# Altium integrated library con-molex.IntLib: 368 symbols (part 5 of 6)

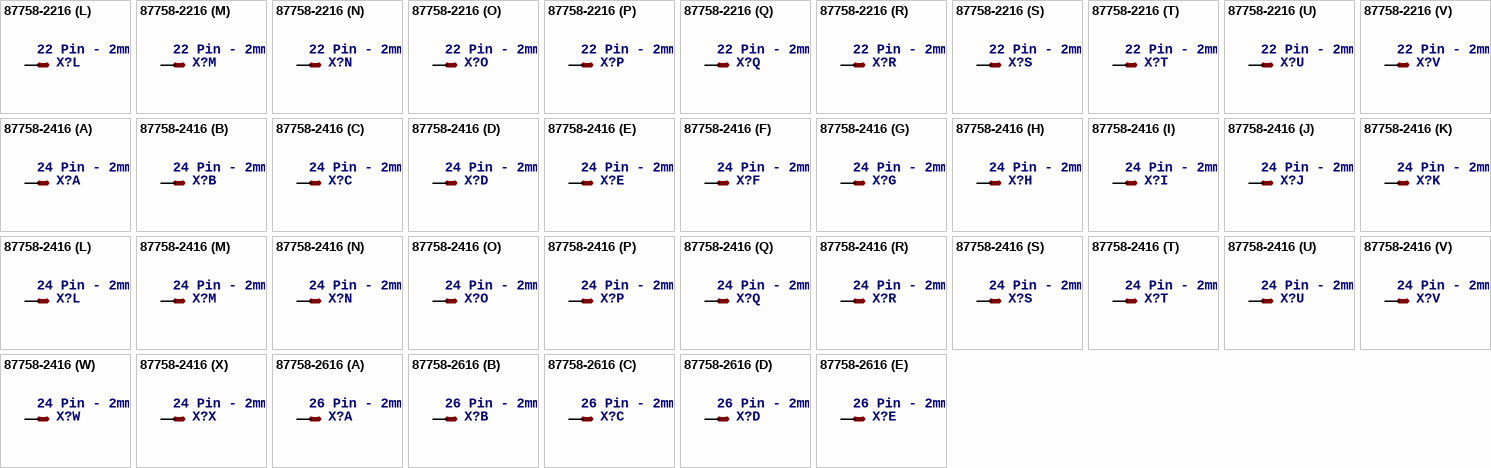
[diagram p92: symbols 87758-2216 to 87758-2616]

## 87758-2216
designator X?, comment 22 Pin - 2mm Dual Row Single Wafer, Vertical T/H HDR   Source: http://www.molex.com/pdm_docs/sd/877580616_sd.pdf
MPN: 87758-2216; OC_FARNELL: unknown; OC_NEWARK: 94M1536
footprint 87758-2216
part A pins: 1 S
part B pins: 2 S
part C pins: 3 S
part D pins: 4 S
part E pins: 5 S
part F pins: 6 S
part G pins: 7 S
part H pins: 8 S
part I pins: 9 S
part J pins: 10 S
part K pins: 11 S
part L pins: 12 S
part M pins: 13 S
part N pins: 14 S
part O pins: 15 S
part P pins: 16 S
part Q pins: 17 S
part R pins: 18 S
part S pins: 19 S
part T pins: 20 S
part U pins: 21 S
part V pins: 22 S

## 87758-2416
designator X?, comment 24 Pin - 2mm Dual Row Single Wafer, Vertical T/H HDR   Source: http://www.molex.com/pdm_docs/sd/877580616_sd.pdf
MPN: 87758-2416; OC_FARNELL: unknown; OC_NEWARK: 25M5679
footprint 87758-2416
part A pins: 1 S
part B pins: 2 S
part C pins: 3 S
part D pins: 4 S
part E pins: 5 S
part F pins: 6 S
part G pins: 7 S
part H pins: 8 S
part I pins: 9 S
part J pins: 10 S
part K pins: 11 S
part L pins: 12 S
part M pins: 13 S
part N pins: 14 S
part O pins: 15 S
part P pins: 16 S
part Q pins: 17 S
part R pins: 18 S
part S pins: 19 S
part T pins: 20 S
part U pins: 21 S
part V pins: 22 S
part W pins: 23 S
part X pins: 24 S

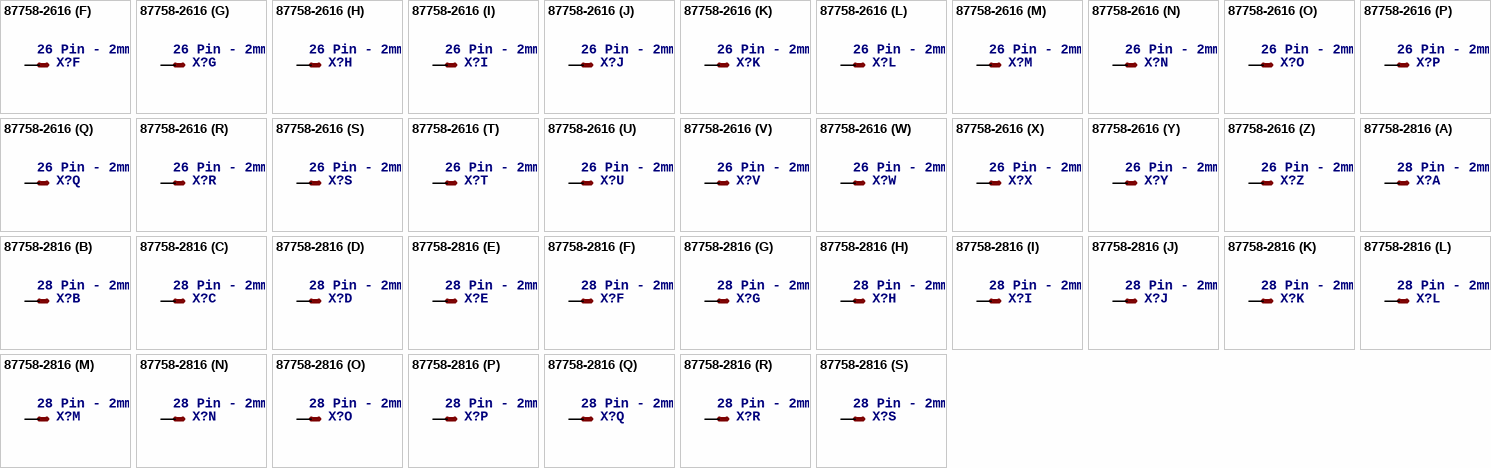
[diagram p93: symbols 87758-2616 to 87758-2816]

## 87758-2616
designator X?, comment 26 Pin - 2mm Dual Row Single Wafer, Vertical T/H HDR   Source: http://www.molex.com/pdm_docs/sd/877580616_sd.pdf
MPN: 87758-2616; OC_FARNELL: unknown; OC_NEWARK: 94M1541
footprint 87758-2616
part A pins: 1 S
part B pins: 2 S
part C pins: 3 S
part D pins: 4 S
part E pins: 5 S
part F pins: 6 S
part G pins: 7 S
part H pins: 8 S
part I pins: 9 S
part J pins: 10 S
part K pins: 11 S
part L pins: 12 S
part M pins: 13 S
part N pins: 14 S
part O pins: 15 S
part P pins: 16 S
part Q pins: 17 S
part R pins: 18 S
part S pins: 19 S
part T pins: 20 S
part U pins: 21 S
part V pins: 22 S
part W pins: 23 S
part X pins: 24 S
part Y pins: 25 S
part Z pins: 26 S

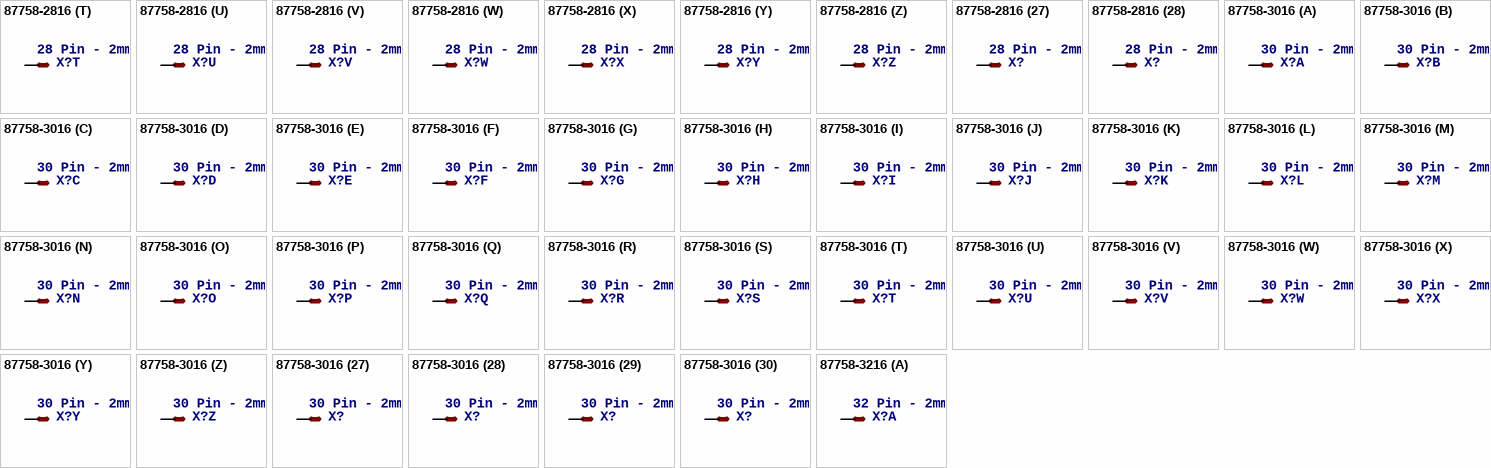
[diagram p94: symbols 87758-2816 to 87758-3216]

## 87758-2816
designator X?, comment 28 Pin - 2mm Dual Row Single Wafer, Vertical T/H HDR   Source: http://www.molex.com/pdm_docs/sd/877580616_sd.pdf
MPN: 87758-2816; OC_FARNELL: unknown; OC_NEWARK: 25M5681
footprint 87758-2816
part A pins: 1 S
part B pins: 2 S
part C pins: 3 S
part D pins: 4 S
part E pins: 5 S
part F pins: 6 S
part G pins: 7 S
part H pins: 8 S
part I pins: 9 S
part J pins: 10 S
part K pins: 11 S
part L pins: 12 S
part M pins: 13 S
part N pins: 14 S
part O pins: 15 S
part P pins: 16 S
part Q pins: 17 S
part R pins: 18 S
part S pins: 19 S
part T pins: 20 S
part U pins: 21 S
part V pins: 22 S
part W pins: 23 S
part X pins: 24 S
part Y pins: 25 S
part Z pins: 26 S
part 27 pins: 27 S
part 28 pins: 28 S

## 87758-3016
designator X?, comment 30 Pin - 2mm Dual Row Single Wafer, Vertical T/H HDR   Source: http://www.molex.com/pdm_docs/sd/877580616_sd.pdf
MPN: 87758-3016; MF: MOLEX; OC_FARNELL: unknown; OC_NEWARK: 59J1575
footprint 87758-3016
part A pins: 1 S
part B pins: 2 S
part C pins: 3 S
part D pins: 4 S
part E pins: 5 S
part F pins: 6 S
part G pins: 7 S
part H pins: 8 S
part I pins: 9 S
part J pins: 10 S
part K pins: 11 S
part L pins: 12 S
part M pins: 13 S
part N pins: 14 S
part O pins: 15 S
part P pins: 16 S
part Q pins: 17 S
part R pins: 18 S
part S pins: 19 S
part T pins: 20 S
part U pins: 21 S
part V pins: 22 S
part W pins: 23 S
part X pins: 24 S
part Y pins: 25 S
part Z pins: 26 S
part 27 pins: 27 S
part 28 pins: 28 S
part 29 pins: 29 S
part 30 pins: 30 S

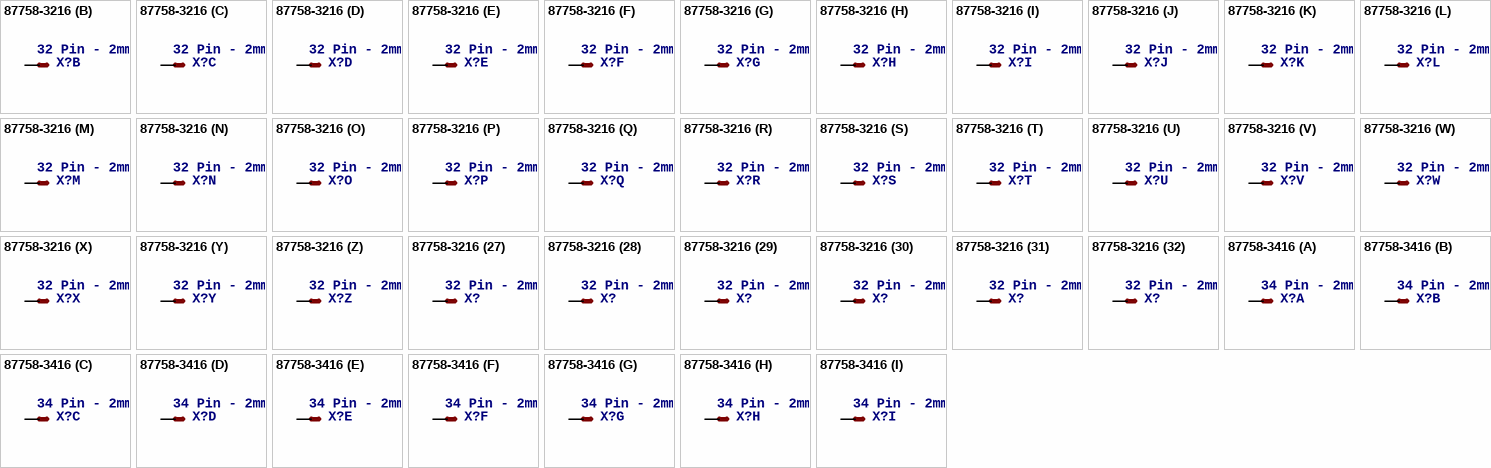
[diagram p95: symbols 87758-3216 to 87758-3416]

## 87758-3216
designator X?, comment 32 Pin - 2mm Dual Row Single Wafer, Vertical T/H HDR   Source: http://www.molex.com/pdm_docs/sd/877580616_sd.pdf
MPN: 87758-3216; OC_FARNELL: unknown; OC_NEWARK: 25M5684
footprint 87758-3216
part A pins: 1 S
part B pins: 2 S
part C pins: 3 S
part D pins: 4 S
part E pins: 5 S
part F pins: 6 S
part G pins: 7 S
part H pins: 8 S
part I pins: 9 S
part J pins: 10 S
part K pins: 11 S
part L pins: 12 S
part M pins: 13 S
part N pins: 14 S
part O pins: 15 S
part P pins: 16 S
part Q pins: 17 S
part R pins: 18 S
part S pins: 19 S
part T pins: 20 S
part U pins: 21 S
part V pins: 22 S
part W pins: 23 S
part X pins: 24 S
part Y pins: 25 S
part Z pins: 26 S
part 27 pins: 27 S
part 28 pins: 28 S
part 29 pins: 29 S
part 30 pins: 30 S
part 31 pins: 31 S
part 32 pins: 32 S

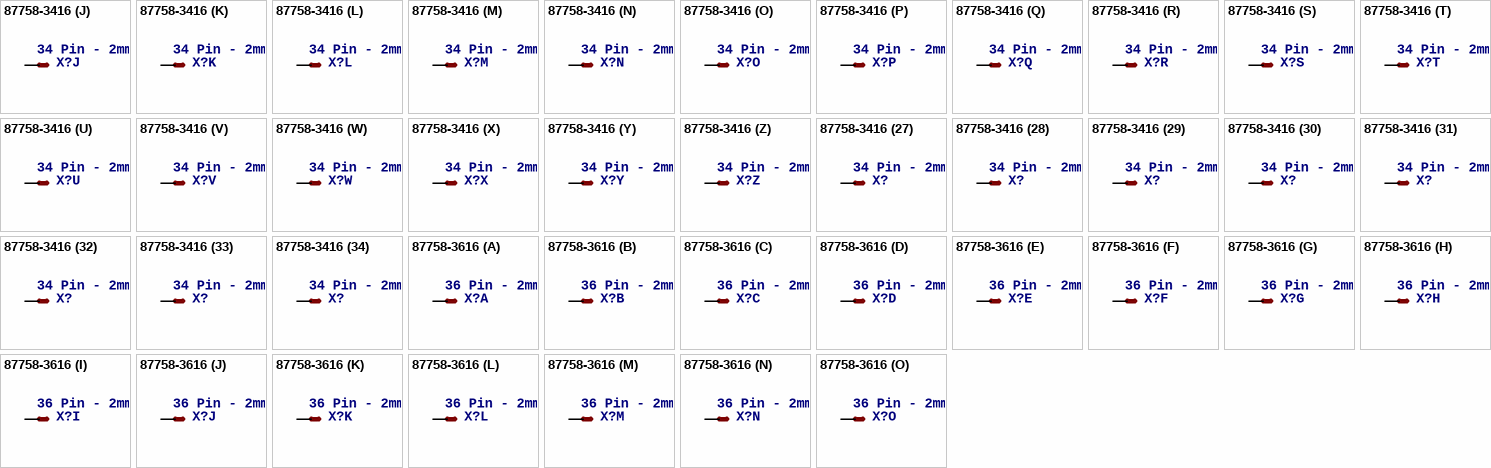
[diagram p96: symbols 87758-3416 to 87758-3616]

## 87758-3416
designator X?, comment 34 Pin - 2mm Dual Row Single Wafer, Vertical T/H HDR   Source: http://www.molex.com/pdm_docs/sd/877580616_sd.pdf
MPN: 87758-3416; OC_FARNELL: unknown; OC_NEWARK: 25M5686
footprint 87758-3416
part A pins: 1 S
part B pins: 2 S
part C pins: 3 S
part D pins: 4 S
part E pins: 5 S
part F pins: 6 S
part G pins: 7 S
part H pins: 8 S
part I pins: 9 S
part J pins: 10 S
part K pins: 11 S
part L pins: 12 S
part M pins: 13 S
part N pins: 14 S
part O pins: 15 S
part P pins: 16 S
part Q pins: 17 S
part R pins: 18 S
part S pins: 19 S
part T pins: 20 S
part U pins: 21 S
part V pins: 22 S
part W pins: 23 S
part X pins: 24 S
part Y pins: 25 S
part Z pins: 26 S
part 27 pins: 27 S
part 28 pins: 28 S
part 29 pins: 29 S
part 30 pins: 30 S
part 31 pins: 31 S
part 32 pins: 32 S
part 33 pins: 33 S
part 34 pins: 34 S

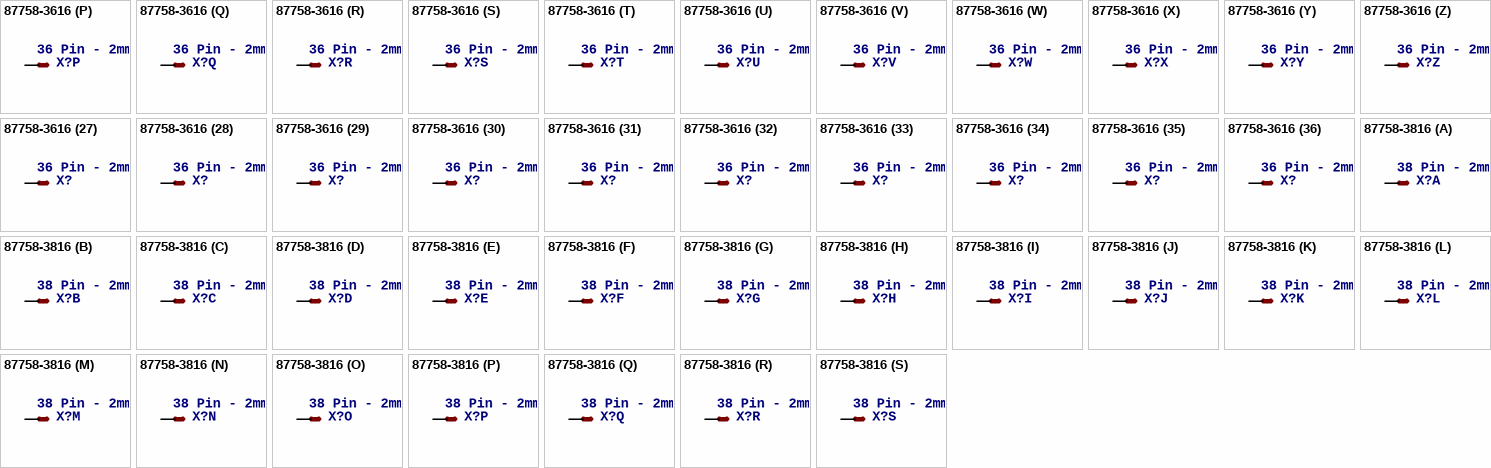
[diagram p97: symbols 87758-3616 to 87758-3816]

## 87758-3616
designator X?, comment 36 Pin - 2mm Dual Row Single Wafer, Vertical T/H HDR   Source: http://www.molex.com/pdm_docs/sd/877580616_sd.pdf
MPN: 87758-3616; OC_FARNELL: unknown; OC_NEWARK: 25M5688
footprint 87758-3616
part A pins: 1 S
part B pins: 2 S
part C pins: 3 S
part D pins: 4 S
part E pins: 5 S
part F pins: 6 S
part G pins: 7 S
part H pins: 8 S
part I pins: 9 S
part J pins: 10 S
part K pins: 11 S
part L pins: 12 S
part M pins: 13 S
part N pins: 14 S
part O pins: 15 S
part P pins: 16 S
part Q pins: 17 S
part R pins: 18 S
part S pins: 19 S
part T pins: 20 S
part U pins: 21 S
part V pins: 22 S
part W pins: 23 S
part X pins: 24 S
part Y pins: 25 S
part Z pins: 26 S
part 27 pins: 27 S
part 28 pins: 28 S
part 29 pins: 29 S
part 30 pins: 30 S
part 31 pins: 31 S
part 32 pins: 32 S
part 33 pins: 33 S
part 34 pins: 34 S
part 35 pins: 35 S
part 36 pins: 36 S

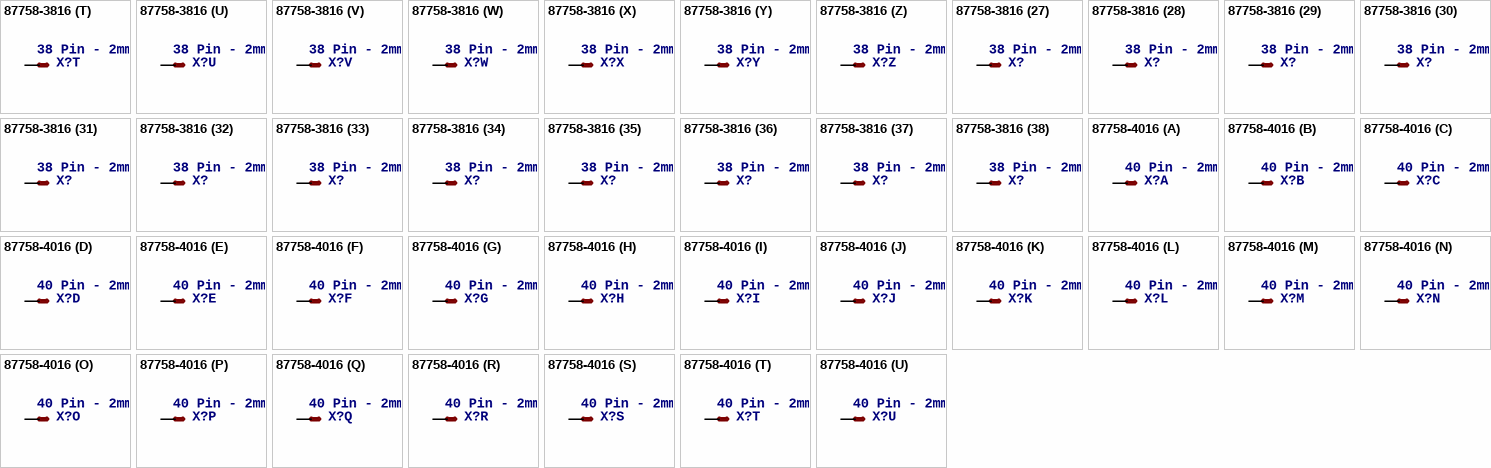
[diagram p98: symbols 87758-3816 to 87758-4016]

## 87758-3816
designator X?, comment 38 Pin - 2mm Dual Row Single Wafer, Vertical T/H HDR   Source: http://www.molex.com/pdm_docs/sd/877580616_sd.pdf
MPN: 87758-3816; OC_FARNELL: unknown; OC_NEWARK: 25M5690
footprint 87758-3816
part A pins: 1 S
part B pins: 2 S
part C pins: 3 S
part D pins: 4 S
part E pins: 5 S
part F pins: 6 S
part G pins: 7 S
part H pins: 8 S
part I pins: 9 S
part J pins: 10 S
part K pins: 11 S
part L pins: 12 S
part M pins: 13 S
part N pins: 14 S
part O pins: 15 S
part P pins: 16 S
part Q pins: 17 S
part R pins: 18 S
part S pins: 19 S
part T pins: 20 S
part U pins: 21 S
part V pins: 22 S
part W pins: 23 S
part X pins: 24 S
part Y pins: 25 S
part Z pins: 26 S
part 27 pins: 27 S
part 28 pins: 28 S
part 29 pins: 29 S
part 30 pins: 30 S
part 31 pins: 31 S
part 32 pins: 32 S
part 33 pins: 33 S
part 34 pins: 34 S
part 35 pins: 35 S
part 36 pins: 36 S
part 37 pins: 37 S
part 38 pins: 38 S

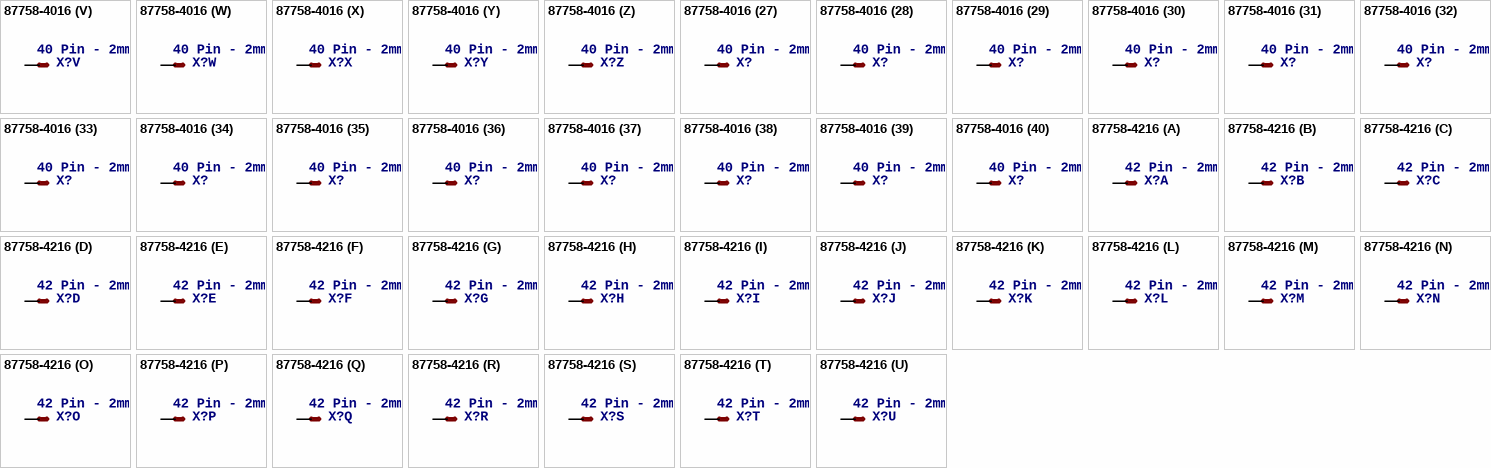
[diagram p99: symbols 87758-4016 to 87758-4216]

## 87758-4016
designator X?, comment 40 Pin - 2mm Dual Row Single Wafer, Vertical T/H HDR   Source: http://www.molex.com/pdm_docs/sd/877580616_sd.pdf
MPN: 87758-4016; OC_FARNELL: unknown; OC_NEWARK: 25M5691
footprint 87758-4016
part A pins: 1 S
part B pins: 2 S
part C pins: 3 S
part D pins: 4 S
part E pins: 5 S
part F pins: 6 S
part G pins: 7 S
part H pins: 8 S
part I pins: 9 S
part J pins: 10 S
part K pins: 11 S
part L pins: 12 S
part M pins: 13 S
part N pins: 14 S
part O pins: 15 S
part P pins: 16 S
part Q pins: 17 S
part R pins: 18 S
part S pins: 19 S
part T pins: 20 S
part U pins: 21 S
part V pins: 22 S
part W pins: 23 S
part X pins: 24 S
part Y pins: 25 S
part Z pins: 26 S
part 27 pins: 27 S
part 28 pins: 28 S
part 29 pins: 29 S
part 30 pins: 30 S
part 31 pins: 31 S
part 32 pins: 32 S
part 33 pins: 33 S
part 34 pins: 34 S
part 35 pins: 35 S
part 36 pins: 36 S
part 37 pins: 37 S
part 38 pins: 38 S
part 39 pins: 39 S
part 40 pins: 40 S

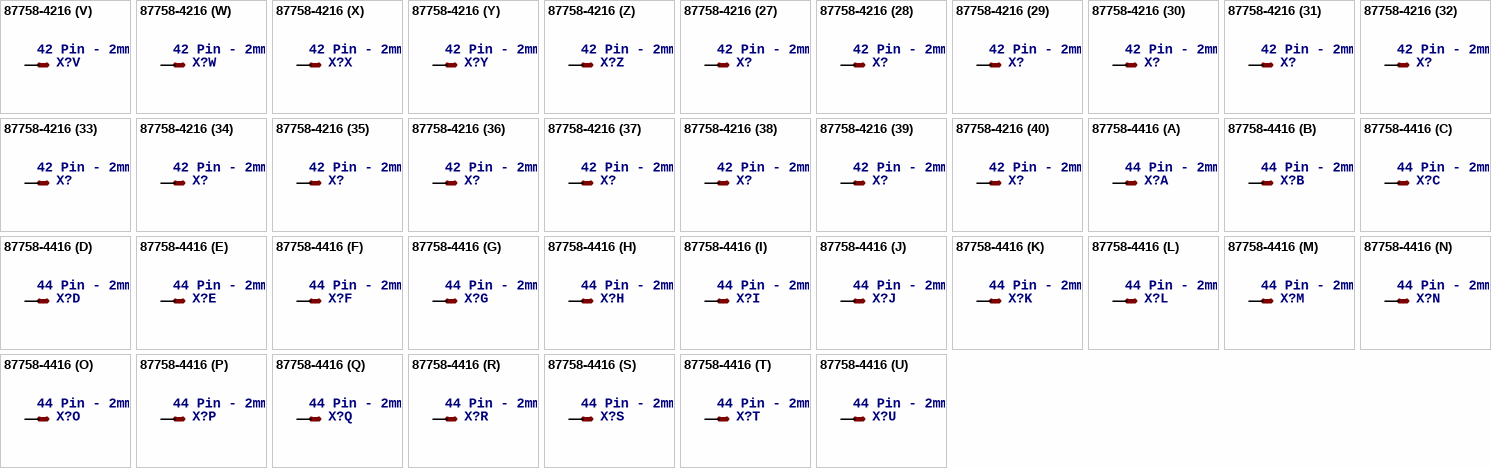
[diagram p100: symbols 87758-4216 to 87758-4416]

## 87758-4216
designator X?, comment 42 Pin - 2mm Dual Row Single Wafer, Vertical T/H HDR   Source: http://www.molex.com/pdm_docs/sd/877580616_sd.pdf
MPN: 87758-4216; OC_FARNELL: unknown; OC_NEWARK: 25M5693
footprint 87758-4216
part A pins: 1 S
part B pins: 2 S
part C pins: 3 S
part D pins: 4 S
part E pins: 5 S
part F pins: 6 S
part G pins: 7 S
part H pins: 8 S
part I pins: 9 S
part J pins: 10 S
part K pins: 11 S
part L pins: 12 S
part M pins: 13 S
part N pins: 14 S
part O pins: 15 S
part P pins: 16 S
part Q pins: 17 S
part R pins: 18 S
part S pins: 19 S
part T pins: 20 S
part U pins: 21 S
part V pins: 22 S
part W pins: 23 S
part X pins: 24 S
part Y pins: 25 S
part Z pins: 26 S
part 27 pins: 27 S
part 28 pins: 28 S
part 29 pins: 29 S
part 30 pins: 30 S
part 31 pins: 31 S
part 32 pins: 32 S
part 33 pins: 33 S
part 34 pins: 34 S
part 35 pins: 35 S
part 36 pins: 36 S
part 37 pins: 37 S
part 38 pins: 38 S
part 39 pins: 39 S
part 40 pins: 40 S
part 41 pins: 41 S
part 42 pins: 42 S

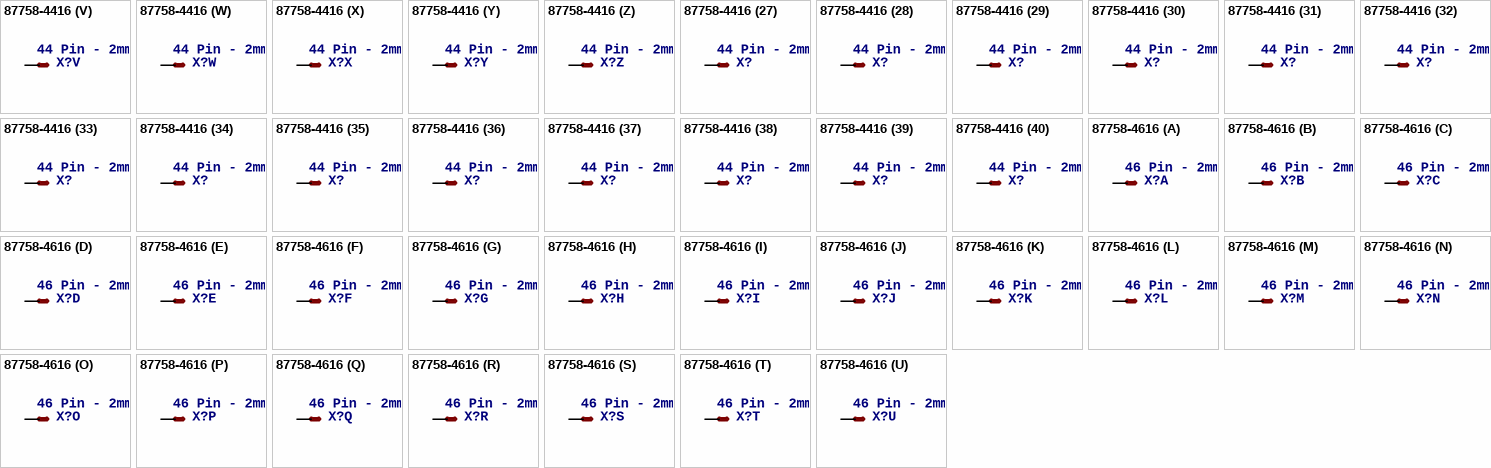
[diagram p101: symbols 87758-4416 to 87758-4616]

## 87758-4416
designator X?, comment 44 Pin - 2mm Dual Row Single Wafer, Vertical T/H HDR   Source: http://www.molex.com/pdm_docs/sd/877580616_sd.pdf
MPN: 87758-4416; MF: MOLEX; OC_FARNELL: unknown; OC_NEWARK: 59J1588
footprint 87758-4416
part A pins: 1 S
part B pins: 2 S
part C pins: 3 S
part D pins: 4 S
part E pins: 5 S
part F pins: 6 S
part G pins: 7 S
part H pins: 8 S
part I pins: 9 S
part J pins: 10 S
part K pins: 11 S
part L pins: 12 S
part M pins: 13 S
part N pins: 14 S
part O pins: 15 S
part P pins: 16 S
part Q pins: 17 S
part R pins: 18 S
part S pins: 19 S
part T pins: 20 S
part U pins: 21 S
part V pins: 22 S
part W pins: 23 S
part X pins: 24 S
part Y pins: 25 S
part Z pins: 26 S
part 27 pins: 27 S
part 28 pins: 28 S
part 29 pins: 29 S
part 30 pins: 30 S
part 31 pins: 31 S
part 32 pins: 32 S
part 33 pins: 33 S
part 34 pins: 34 S
part 35 pins: 35 S
part 36 pins: 36 S
part 37 pins: 37 S
part 38 pins: 38 S
part 39 pins: 39 S
part 40 pins: 40 S
part 41 pins: 41 S
part 42 pins: 42 S
part 43 pins: 43 S
part 44 pins: 44 S

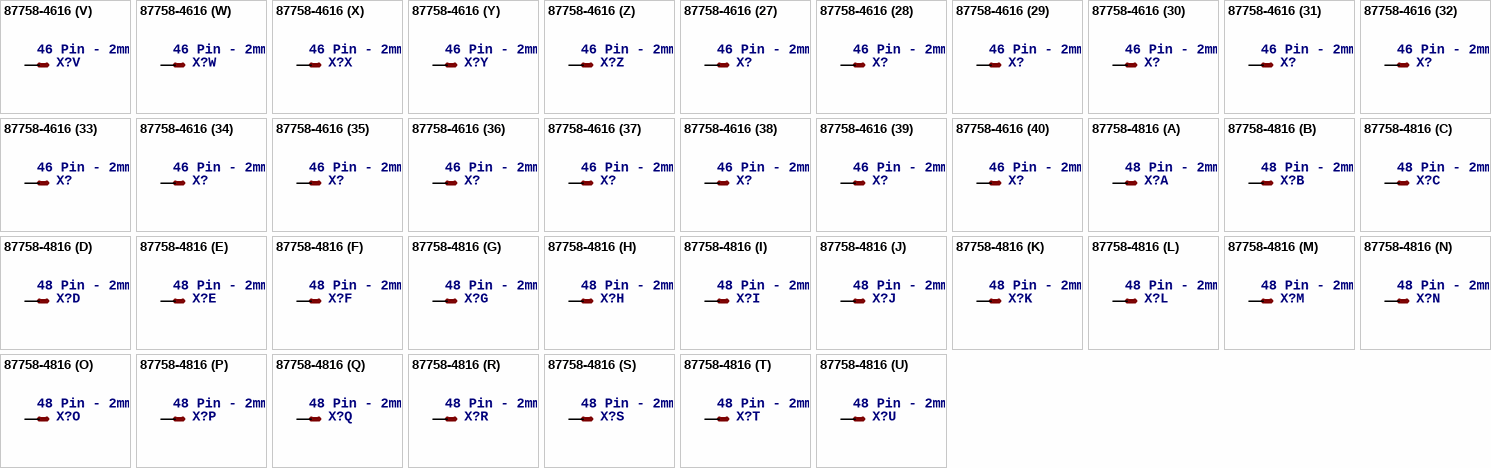
[diagram p102: symbols 87758-4616 to 87758-4816]

## 87758-4616
designator X?, comment 46 Pin - 2mm Dual Row Single Wafer, Vertical T/H HDR   Source: http://www.molex.com/pdm_docs/sd/877580616_sd.pdf
MPN: 87758-4616; OC_FARNELL: unknown; OC_NEWARK: 25M5695
footprint 87758-4616
part A pins: 1 S
part B pins: 2 S
part C pins: 3 S
part D pins: 4 S
part E pins: 5 S
part F pins: 6 S
part G pins: 7 S
part H pins: 8 S
part I pins: 9 S
part J pins: 10 S
part K pins: 11 S
part L pins: 12 S
part M pins: 13 S
part N pins: 14 S
part O pins: 15 S
part P pins: 16 S
part Q pins: 17 S
part R pins: 18 S
part S pins: 19 S
part T pins: 20 S
part U pins: 21 S
part V pins: 22 S
part W pins: 23 S
part X pins: 24 S
part Y pins: 25 S
part Z pins: 26 S
part 27 pins: 27 S
part 28 pins: 28 S
part 29 pins: 29 S
part 30 pins: 30 S
part 31 pins: 31 S
part 32 pins: 32 S
part 33 pins: 33 S
part 34 pins: 34 S
part 35 pins: 35 S
part 36 pins: 36 S
part 37 pins: 37 S
part 38 pins: 38 S
part 39 pins: 39 S
part 40 pins: 40 S
part 41 pins: 41 S
part 42 pins: 42 S
part 43 pins: 43 S
part 44 pins: 44 S
part 45 pins: 45 S
part 46 pins: 46 S

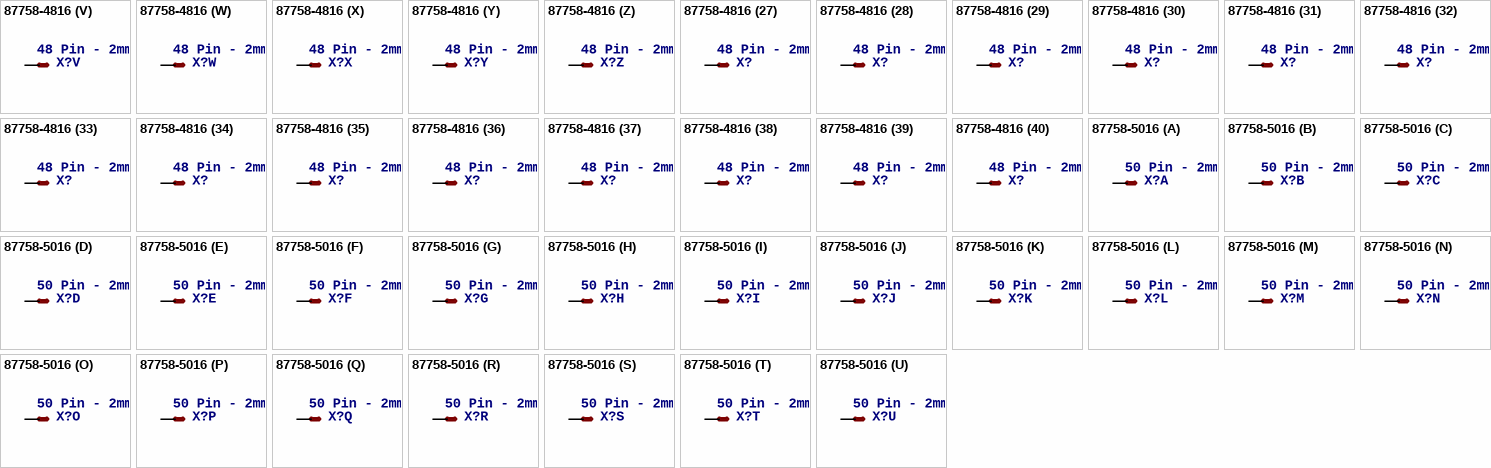
[diagram p103: symbols 87758-4816 to 87758-5016]

## 87758-4816
designator X?, comment 48 Pin - 2mm Dual Row Single Wafer, Vertical T/H HDR   Source: http://www.molex.com/pdm_docs/sd/877580616_sd.pdf
MPN: 87758-4816; OC_FARNELL: unknown; OC_NEWARK: 25M5696
footprint 87758-4816
part A pins: 1 S
part B pins: 2 S
part C pins: 3 S
part D pins: 4 S
part E pins: 5 S
part F pins: 6 S
part G pins: 7 S
part H pins: 8 S
part I pins: 9 S
part J pins: 10 S
part K pins: 11 S
part L pins: 12 S
part M pins: 13 S
part N pins: 14 S
part O pins: 15 S
part P pins: 16 S
part Q pins: 17 S
part R pins: 18 S
part S pins: 19 S
part T pins: 20 S
part U pins: 21 S
part V pins: 22 S
part W pins: 23 S
part X pins: 24 S
part Y pins: 25 S
part Z pins: 26 S
part 27 pins: 27 S
part 28 pins: 28 S
part 29 pins: 29 S
part 30 pins: 30 S
part 31 pins: 31 S
part 32 pins: 32 S
part 33 pins: 33 S
part 34 pins: 34 S
part 35 pins: 35 S
part 36 pins: 36 S
part 37 pins: 37 S
part 38 pins: 38 S
part 39 pins: 39 S
part 40 pins: 40 S
part 41 pins: 41 S
part 42 pins: 42 S
part 43 pins: 43 S
part 44 pins: 44 S
part 45 pins: 45 S
part 46 pins: 46 S
part 47 pins: 47 S
part 48 pins: 48 S

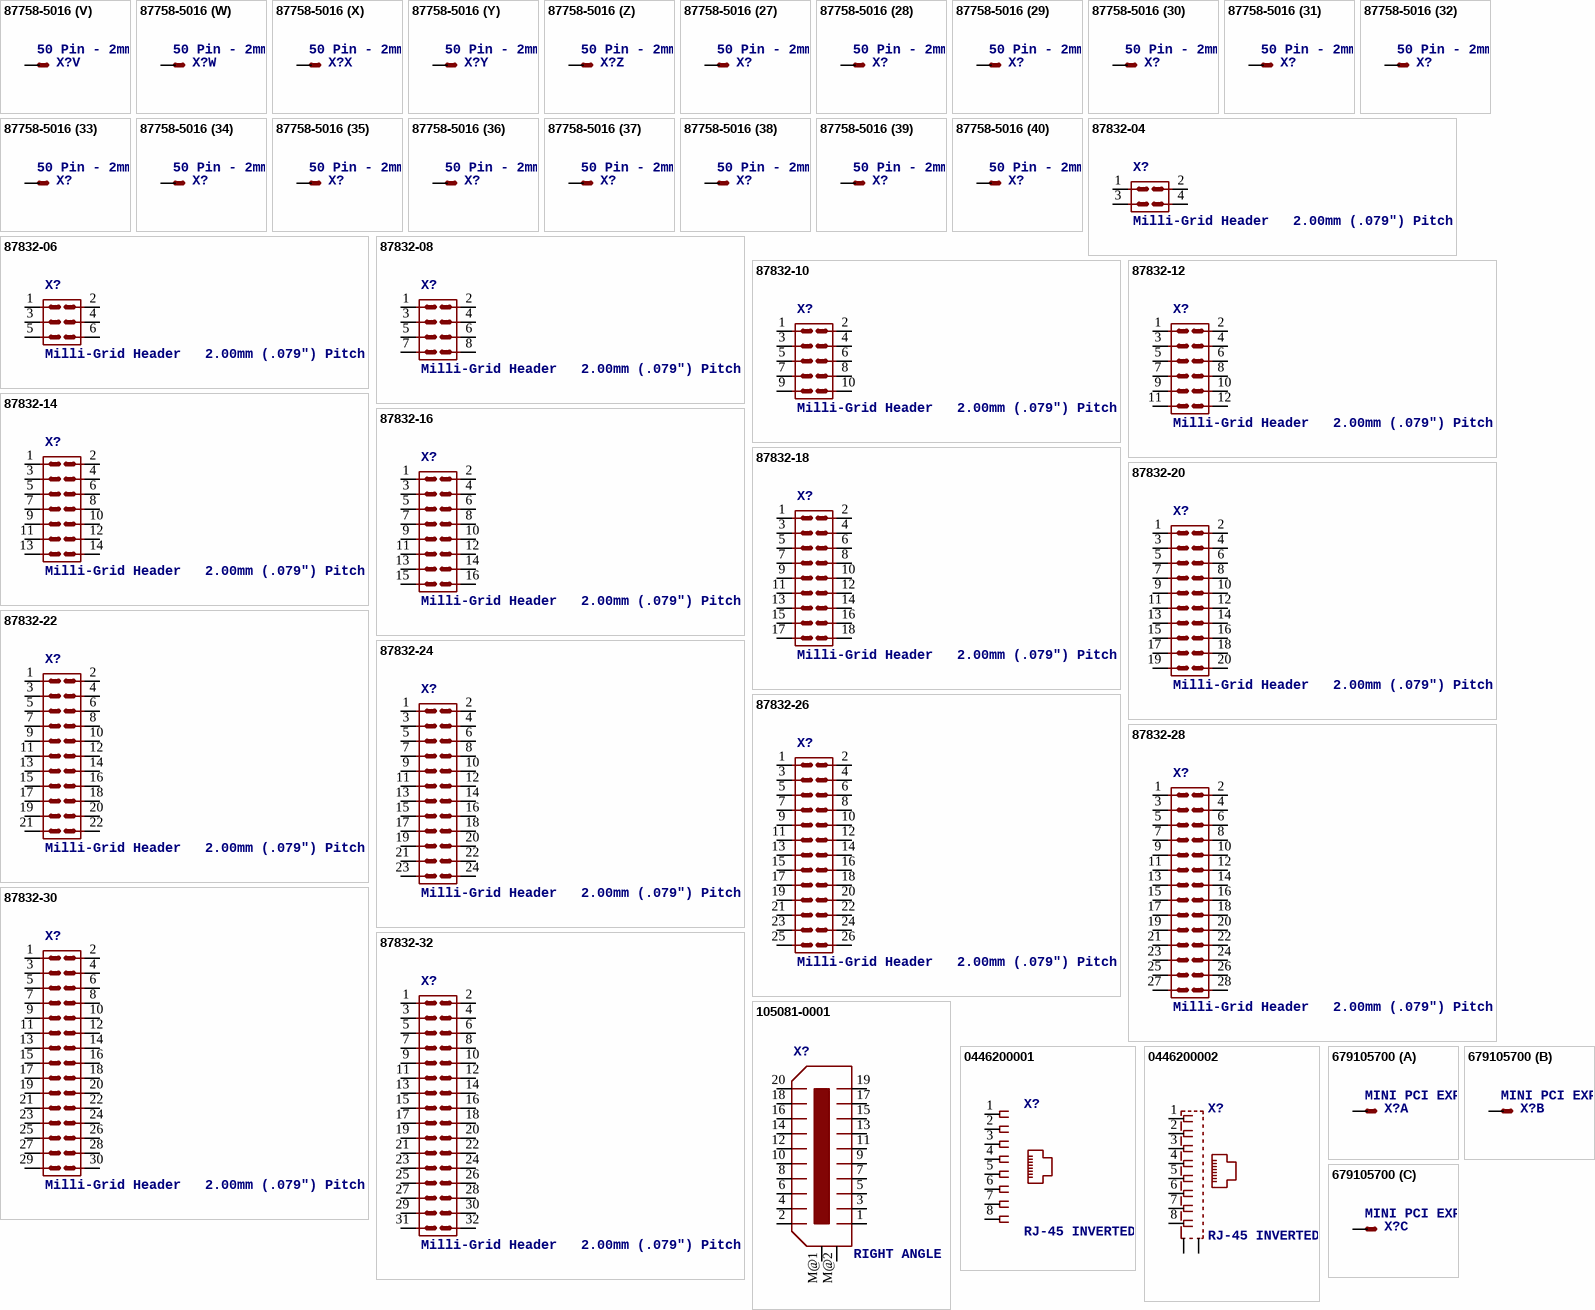
[diagram p104: symbols 87758-5016 to 679105700]

## 87758-5016
designator X?, comment 50 Pin - 2mm Dual Row Single Wafer, Vertical T/H HDR   Source: http://www.molex.com/pdm_docs/sd/877580616_sd.pdf
MPN: 87758-5016; MF: MOLEX; OC_FARNELL: 7472382; OC_NEWARK: 59J1592
footprint 87758-5016
part A pins: 1 S
part B pins: 2 S
part C pins: 3 S
part D pins: 4 S
part E pins: 5 S
part F pins: 6 S
part G pins: 7 S
part H pins: 8 S
part I pins: 9 S
part J pins: 10 S
part K pins: 11 S
part L pins: 12 S
part M pins: 13 S
part N pins: 14 S
part O pins: 15 S
part P pins: 16 S
part Q pins: 17 S
part R pins: 18 S
part S pins: 19 S
part T pins: 20 S
part U pins: 21 S
part V pins: 22 S
part W pins: 23 S
part X pins: 24 S
part Y pins: 25 S
part Z pins: 26 S
part 27 pins: 27 S
part 28 pins: 28 S
part 29 pins: 29 S
part 30 pins: 30 S
part 31 pins: 31 S
part 32 pins: 32 S
part 33 pins: 33 S
part 34 pins: 34 S
part 35 pins: 35 S
part 36 pins: 36 S
part 37 pins: 37 S
part 38 pins: 38 S
part 39 pins: 39 S
part 40 pins: 40 S
part 41 pins: 41 S
part 42 pins: 42 S
part 43 pins: 43 S
part 44 pins: 44 S
part 45 pins: 45 S
part 46 pins: 46 S
part 47 pins: 47 S
part 48 pins: 48 S
part 49 pins: 49 S
part 50 pins: 50 S

## 87832-04
designator X?, comment Milli-Grid Header   2.00mm (.079") Pitch
OC_FARNELL: unknown; OC_NEWARK: unknown
footprint 87832-04
pins: 1, 2, 3, 4

## 87832-06
designator X?, comment Milli-Grid Header   2.00mm (.079") Pitch
OC_FARNELL: 1756947; OC_NEWARK: unknown
footprint 87832-06
pins: 1, 2, 3, 4, 5, 6

## 87832-08
designator X?, comment Milli-Grid Header   2.00mm (.079") Pitch
OC_FARNELL: unknown; OC_NEWARK: unknown
footprint 87832-08
pins: 1, 2, 3, 4, 5, 6, 7, 8

## 87832-10
designator X?, comment Milli-Grid Header   2.00mm (.079") Pitch
OC_FARNELL: unknown; OC_NEWARK: unknown
footprint 87832-10
pins: 1, 2, 3, 4, 5, 6, 7, 8, 9, 10

## 87832-12
designator X?, comment Milli-Grid Header   2.00mm (.079") Pitch
OC_FARNELL: 1756948; OC_NEWARK: unknown
footprint 87832-12
pins: 1, 2, 3, 4, 5, 6, 7, 8, 9, 10, 11, 12

## 87832-14
designator X?, comment Milli-Grid Header   2.00mm (.079") Pitch
OC_FARNELL: 7434698; OC_NEWARK: unknown
footprint 87832-14
pins: 1, 2, 3, 4, 5, 6, 7, 8, 9, 10, 11, 12, 13, 14

## 87832-16
designator X?, comment Milli-Grid Header   2.00mm (.079") Pitch
OC_FARNELL: 1756949; OC_NEWARK: unknown
footprint 87832-16
pins: 1, 2, 3, 4, 5, 6, 7, 8, 9, 10, 11, 12, 13, 14, 15, 16

## 87832-18
designator X?, comment Milli-Grid Header   2.00mm (.079") Pitch
OC_FARNELL: unknown; OC_NEWARK: unknown
footprint 87832-18
pins: 1, 2, 3, 4, 5, 6, 7, 8, 9, 10, 11, 12, 13, 14, 15, 16, 17, 18

## 87832-20
designator X?, comment Milli-Grid Header   2.00mm (.079") Pitch
OC_FARNELL: unknown; OC_NEWARK: unknown
footprint 87832-20
pins: 1, 2, 3, 4, 5, 6, 7, 8, 9, 10, 11, 12, 13, 14, 15, 16, 17, 18, 19, 20

## 87832-22
designator X?, comment Milli-Grid Header   2.00mm (.079") Pitch
OC_FARNELL: unknown; OC_NEWARK: unknown
footprint 87832-22
pins: 1, 2, 3, 4, 5, 6, 7, 8, 9, 10, 11, 12, 13, 14, 15, 16, 17, 18, 19, 20, 21, 22

## 87832-24
designator X?, comment Milli-Grid Header   2.00mm (.079") Pitch
OC_FARNELL: unknown; OC_NEWARK: unknown
footprint 87832-24
pins: 1, 2, 3, 4, 5, 6, 7, 8, 9, 10, 11, 12, 13, 14, 15, 16, 17, 18, 19, 20, 21, 22, 23, 24

## 87832-26
designator X?, comment Milli-Grid Header   2.00mm (.079") Pitch
OC_FARNELL: 1550428; OC_NEWARK: unknown
footprint 87832-26
pins: 1, 2, 3, 4, 5, 6, 7, 8, 9, 10, 11, 12, 13, 14, 15, 16, 17, 18, 19, 20, 21, 22, 23, 24, 25, 26

## 87832-28
designator X?, comment Milli-Grid Header   2.00mm (.079") Pitch
MPN: 87832-2821; OC_FARNELL: unknown; OC_NEWARK: 94M1941
footprint 87832-28
pins: 1, 2, 3, 4, 5, 6, 7, 8, 9, 10, 11, 12, 13, 14, 15, 16, 17, 18, 19, 20, 21, 22, 23, 24, 25, 26, 27, 28

## 87832-30
designator X?, comment Milli-Grid Header   2.00mm (.079") Pitch
OC_FARNELL: unknown; OC_NEWARK: unknown
footprint 87832-30
pins: 1, 2, 3, 4, 5, 6, 7, 8, 9, 10, 11, 12, 13, 14, 15, 16, 17, 18, 19, 20, 21, 22, 23, 24, 25, 26, 27, 28, 29, 30

## 87832-32
designator X?, comment Milli-Grid Header   2.00mm (.079") Pitch
OC_FARNELL: unknown; OC_NEWARK: unknown
footprint 87832-32
pins: 1, 2, 3, 4, 5, 6, 7, 8, 9, 10, 11, 12, 13, 14, 15, 16, 17, 18, 19, 20, 21, 22, 23, 24, 25, 26, 27, 28, 29, 30, 31, 32

## 105081-0001
designator X?, comment RIGHT ANGLE MINI-DISPLAYPORT RECEPTACLE   Source: http://www.molex.com/pdm_docs/sd/1050810001_sd.pdf
MPN: 105081-0001; OC_FARNELL: 1774561; OC_NEWARK: 04R6635
footprint 105081-0001
pins: 1, 2, 3, 4, 5, 6, 7, 8, 9, 10, 11, 12, 13, 14, 15, 16, 17, 18, 19, 20, M@1, M@2

## 0446200001
designator X?, comment RJ-45 INVERTED MODULAR JACK ASSEMBLY WITH RJ-11 KEEPOUT FEATURE   Source:  Data sheet
OC_FARNELL: unknown
footprint 0446200001
pins: 1, 2, 3, 4, 5, 6, 7, 8

## 0446200002
designator X?, comment RJ-45 INVERTED MODULAR JACK ASSEMBLY WITH RJ-11 KEEPOUT FEATURE   Source:  Data sheet    MOLEX  0446200002  BUCHSE, RJ45, GESCHIRMT    Source:
MF: MOLEX; MPN: 0446200002; OC_FARNELL: 9251910
footprint 0446200002
pins: 1, 2, 3, 4, 5, 6, 7, 8, S@1 S1, S@2 S2

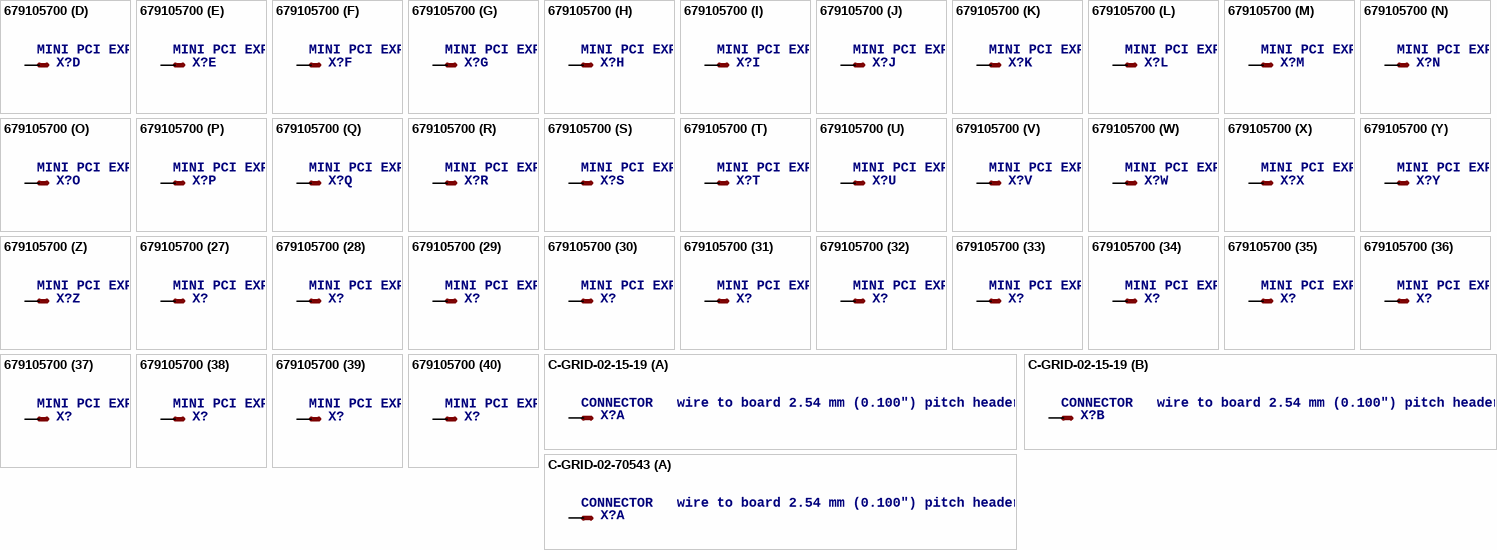
[diagram p105: symbols 679105700 to C-GRID-02-70543]

## 679105700
designator X?, comment MINI PCI EXPRESS CONNECTOR 0.8MM PITCH, 52 CIRCUIT   Source: http://www.molex.com/pdm_docs/sd/679105700_sd.pdf
MPN: 67910-5700; OC_FARNELL: unknown; OC_NEWARK: 93M2128
footprint 679105700
part A pins: 1 S
part B pins: 2 S
part C pins: 3 S
part D pins: 4 S
part E pins: 5 S
part F pins: 6 S
part G pins: 7 S
part H pins: 8 S
part I pins: 9 S
part J pins: 10 S
part K pins: 11 S
part L pins: 12 S
part M pins: 13 S
part N pins: 14 S
part O pins: 15 S
part P pins: 16 S
part Q pins: 17 S
part R pins: 18 S
part S pins: 19 S
part T pins: 20 S
part U pins: 21 S
part V pins: 22 S
part W pins: 23 S
part X pins: 24 S
part Y pins: 25 S
part Z pins: 26 S
part 27 pins: 27 S
part 28 pins: 28 S
part 29 pins: 29 S
part 30 pins: 30 S
part 31 pins: 31 S
part 32 pins: 32 S
part 33 pins: 33 S
part 34 pins: 34 S
part 35 pins: 35 S
part 36 pins: 36 S
part 37 pins: 37 S
part 38 pins: 38 S
part 39 pins: 39 S
part 40 pins: 40 S
part 41 pins: 41 S
part 42 pins: 42 S
part 43 pins: 43 S
part 44 pins: 44 S
part 45 pins: 45 S
part 46 pins: 46 S
part 47 pins: 47 S
part 48 pins: 48 S
part 49 pins: 49 S
part 50 pins: 50 S
part 51 pins: 51 S
part 52 pins: 52 S

## C-GRID-02-15-19
designator X?, comment CONNECTOR   wire to board 2.54 mm (0.100") pitch header
OC_FARNELL: unknown; OC_NEWARK: unknown
footprint 15-91-02
part A pins: 2 S
part B pins: 1 S

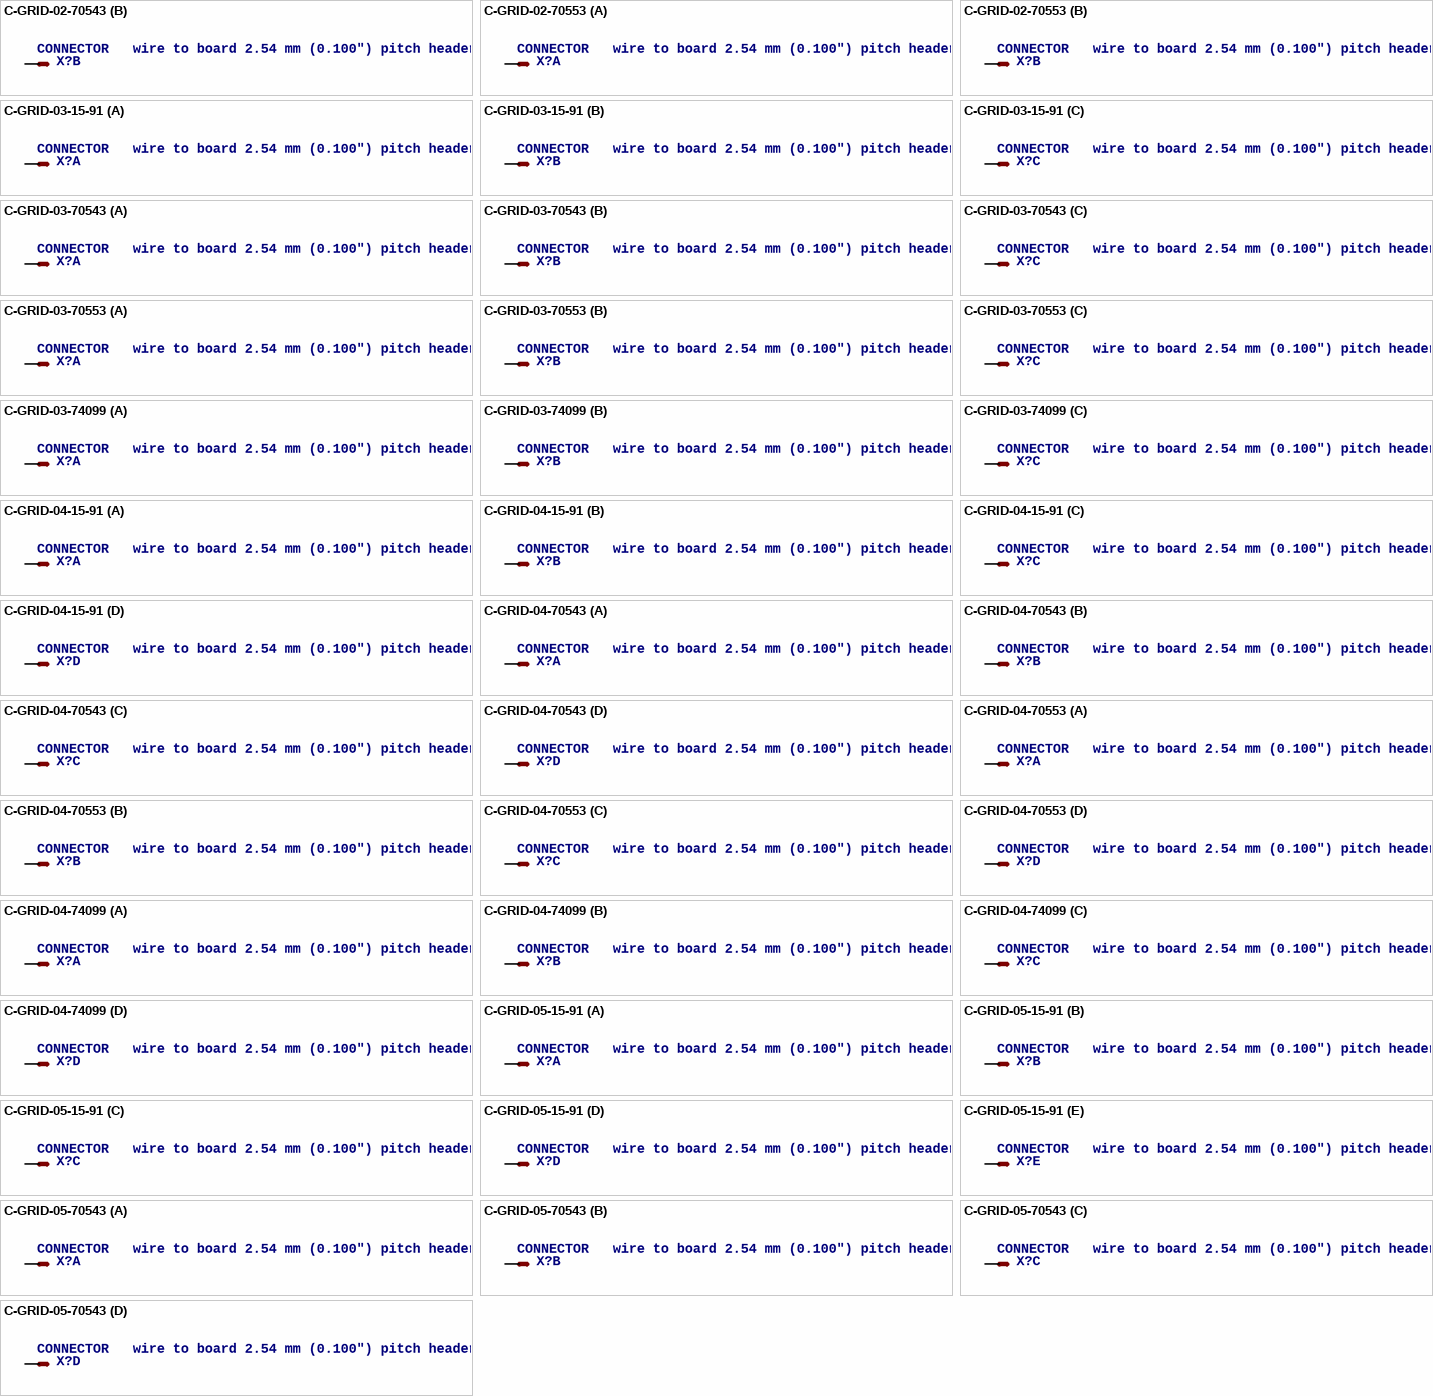
[diagram p106: symbols C-GRID-02-70543 to C-GRID-05-70543]

## C-GRID-02-70543
designator X?, comment CONNECTOR   wire to board 2.54 mm (0.100") pitch header
OC_FARNELL: unknown; OC_NEWARK: unknown
footprint 70543-02
part A pins: 2 S
part B pins: 1 S

## C-GRID-02-70553
designator X?, comment CONNECTOR   wire to board 2.54 mm (0.100") pitch header
OC_FARNELL: unknown; OC_NEWARK: unknown
footprint 70553-02
part A pins: 2 S
part B pins: 1 S

## C-GRID-03-15-91
designator X?, comment CONNECTOR   wire to board 2.54 mm (0.100") pitch header
OC_FARNELL: unknown; OC_NEWARK: unknown
footprint 15-91-03
part A pins: 1 S
part B pins: 2 S
part C pins: 3 S

## C-GRID-03-70543
designator X?, comment CONNECTOR   wire to board 2.54 mm (0.100") pitch header
OC_FARNELL: unknown; OC_NEWARK: unknown
footprint 70543-03
part A pins: 1 S
part B pins: 2 S
part C pins: 3 S

## C-GRID-03-70553
designator X?, comment CONNECTOR   wire to board 2.54 mm (0.100") pitch header
OC_FARNELL: unknown; OC_NEWARK: unknown
footprint 70553-03
part A pins: 1 S
part B pins: 2 S
part C pins: 3 S

## C-GRID-03-74099
designator X?, comment CONNECTOR   wire to board 2.54 mm (0.100") pitch header
OC_FARNELL: unknown; OC_NEWARK: unknown
footprint 74099-03
part A pins: 1 S
part B pins: 2 S
part C pins: 3 S

## C-GRID-04-15-91
designator X?, comment CONNECTOR   wire to board 2.54 mm (0.100") pitch header
OC_FARNELL: unknown; OC_NEWARK: unknown
footprint 15-91-04
part A pins: 1 S
part B pins: 2 S
part C pins: 3 S
part D pins: 4 S

## C-GRID-04-70543
designator X?, comment CONNECTOR   wire to board 2.54 mm (0.100") pitch header
OC_FARNELL: unknown; OC_NEWARK: unknown
footprint 70543-04
part A pins: 1 S
part B pins: 2 S
part C pins: 3 S
part D pins: 4 S

## C-GRID-04-70553
designator X?, comment CONNECTOR   wire to board 2.54 mm (0.100") pitch header
OC_FARNELL: unknown; OC_NEWARK: unknown
footprint 70553-04
part A pins: 1 S
part B pins: 2 S
part C pins: 3 S
part D pins: 4 S

## C-GRID-04-74099
designator X?, comment CONNECTOR   wire to board 2.54 mm (0.100") pitch header
OC_FARNELL: unknown; OC_NEWARK: unknown
footprint 74099-04
part A pins: 1 S
part B pins: 2 S
part C pins: 3 S
part D pins: 4 S

## C-GRID-05-15-91
designator X?, comment CONNECTOR   wire to board 2.54 mm (0.100") pitch header
OC_FARNELL: unknown; OC_NEWARK: unknown
footprint 15-91-05
part A pins: 1 S
part B pins: 2 S
part C pins: 3 S
part D pins: 4 S
part E pins: 5 S

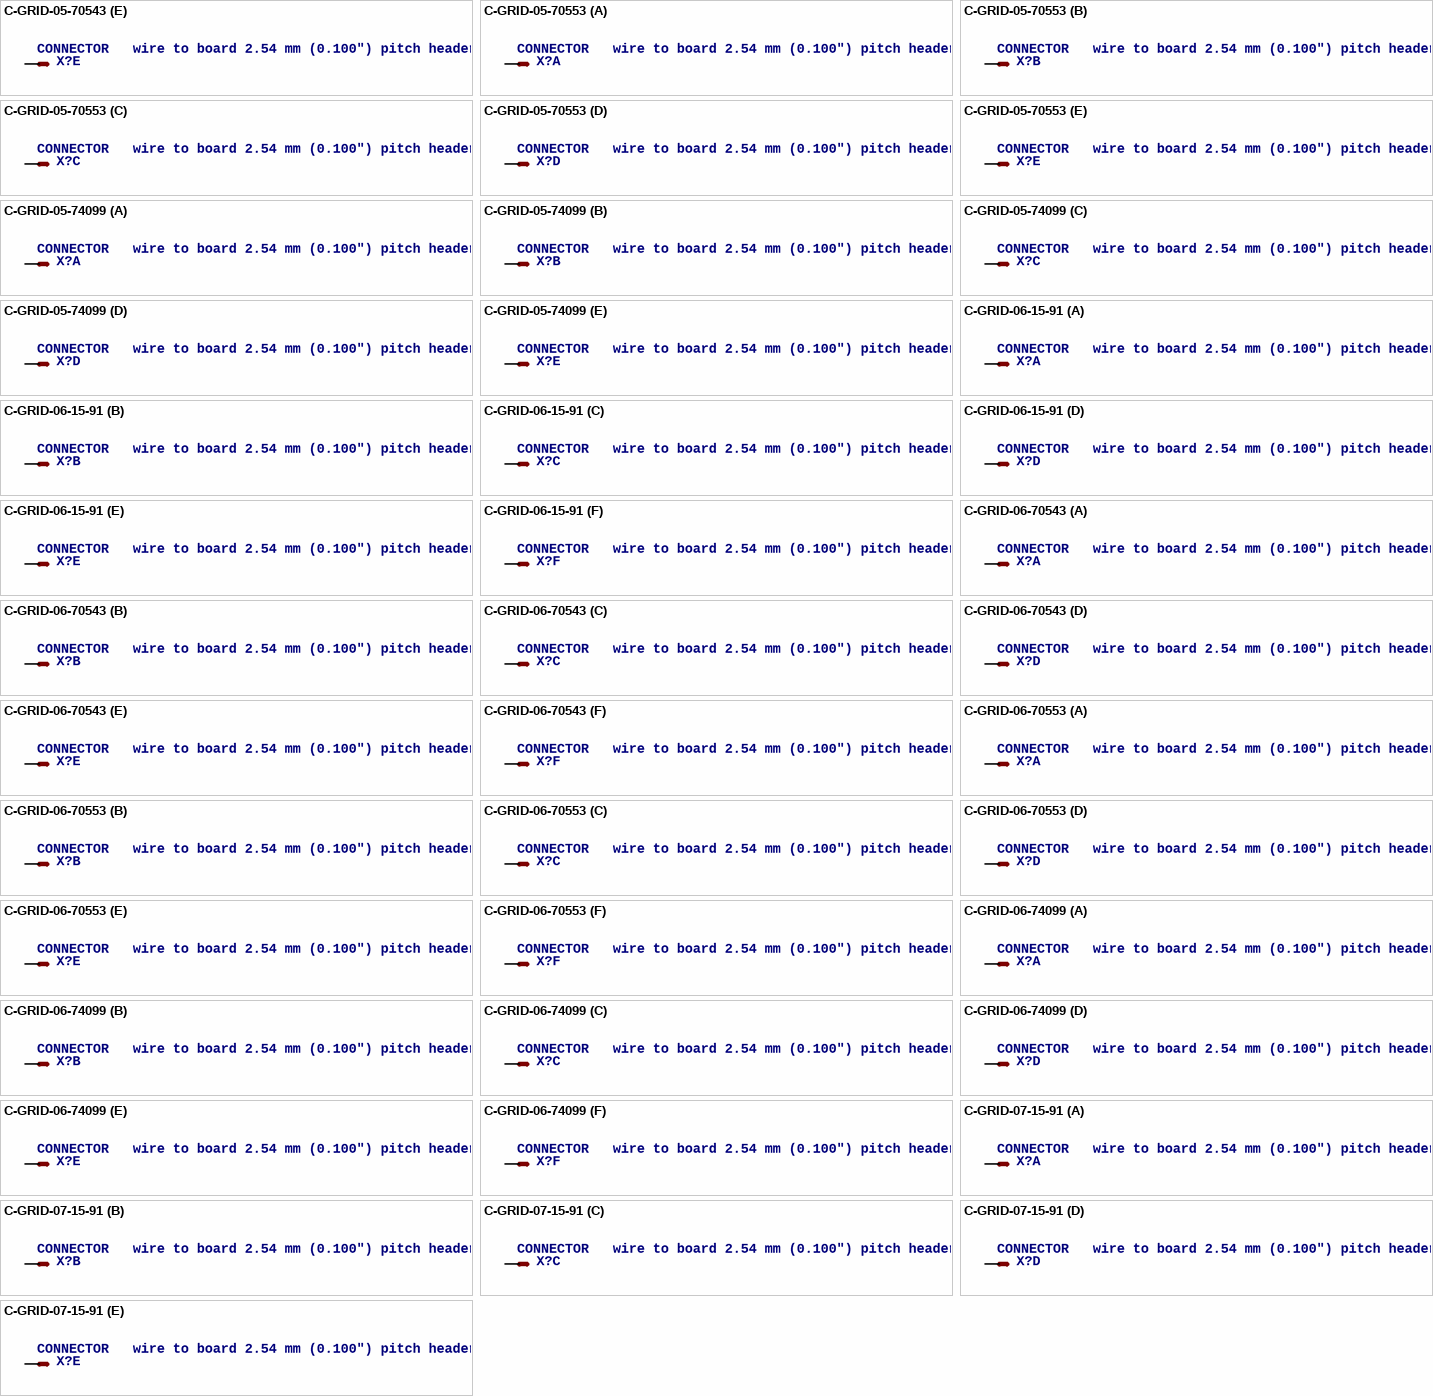
[diagram p107: symbols C-GRID-05-70543 to C-GRID-07-15-91]

## C-GRID-05-70543
designator X?, comment CONNECTOR   wire to board 2.54 mm (0.100") pitch header
OC_FARNELL: unknown; OC_NEWARK: unknown
footprint 70543-05
part A pins: 1 S
part B pins: 2 S
part C pins: 3 S
part D pins: 4 S
part E pins: 5 S

## C-GRID-05-70553
designator X?, comment CONNECTOR   wire to board 2.54 mm (0.100") pitch header
OC_FARNELL: unknown; OC_NEWARK: unknown
footprint 70553-05
part A pins: 1 S
part B pins: 2 S
part C pins: 3 S
part D pins: 4 S
part E pins: 5 S

## C-GRID-05-74099
designator X?, comment CONNECTOR   wire to board 2.54 mm (0.100") pitch header
OC_FARNELL: unknown; OC_NEWARK: unknown
footprint 74099-05
part A pins: 1 S
part B pins: 2 S
part C pins: 3 S
part D pins: 4 S
part E pins: 5 S

## C-GRID-06-15-91
designator X?, comment CONNECTOR   wire to board 2.54 mm (0.100") pitch header
OC_FARNELL: unknown; OC_NEWARK: unknown
footprint 15-91-06
part A pins: 1 S
part B pins: 2 S
part C pins: 3 S
part D pins: 4 S
part E pins: 5 S
part F pins: 6 S

## C-GRID-06-70543
designator X?, comment CONNECTOR   wire to board 2.54 mm (0.100") pitch header
OC_FARNELL: unknown; OC_NEWARK: unknown
footprint 70543-06
part A pins: 1 S
part B pins: 2 S
part C pins: 3 S
part D pins: 4 S
part E pins: 5 S
part F pins: 6 S

## C-GRID-06-70553
designator X?, comment CONNECTOR   wire to board 2.54 mm (0.100") pitch header
OC_FARNELL: unknown; OC_NEWARK: unknown
footprint 70553-06
part A pins: 1 S
part B pins: 2 S
part C pins: 3 S
part D pins: 4 S
part E pins: 5 S
part F pins: 6 S

## C-GRID-06-74099
designator X?, comment CONNECTOR   wire to board 2.54 mm (0.100") pitch header
OC_FARNELL: unknown; OC_NEWARK: unknown
footprint 74099-06
part A pins: 1 S
part B pins: 2 S
part C pins: 3 S
part D pins: 4 S
part E pins: 5 S
part F pins: 6 S

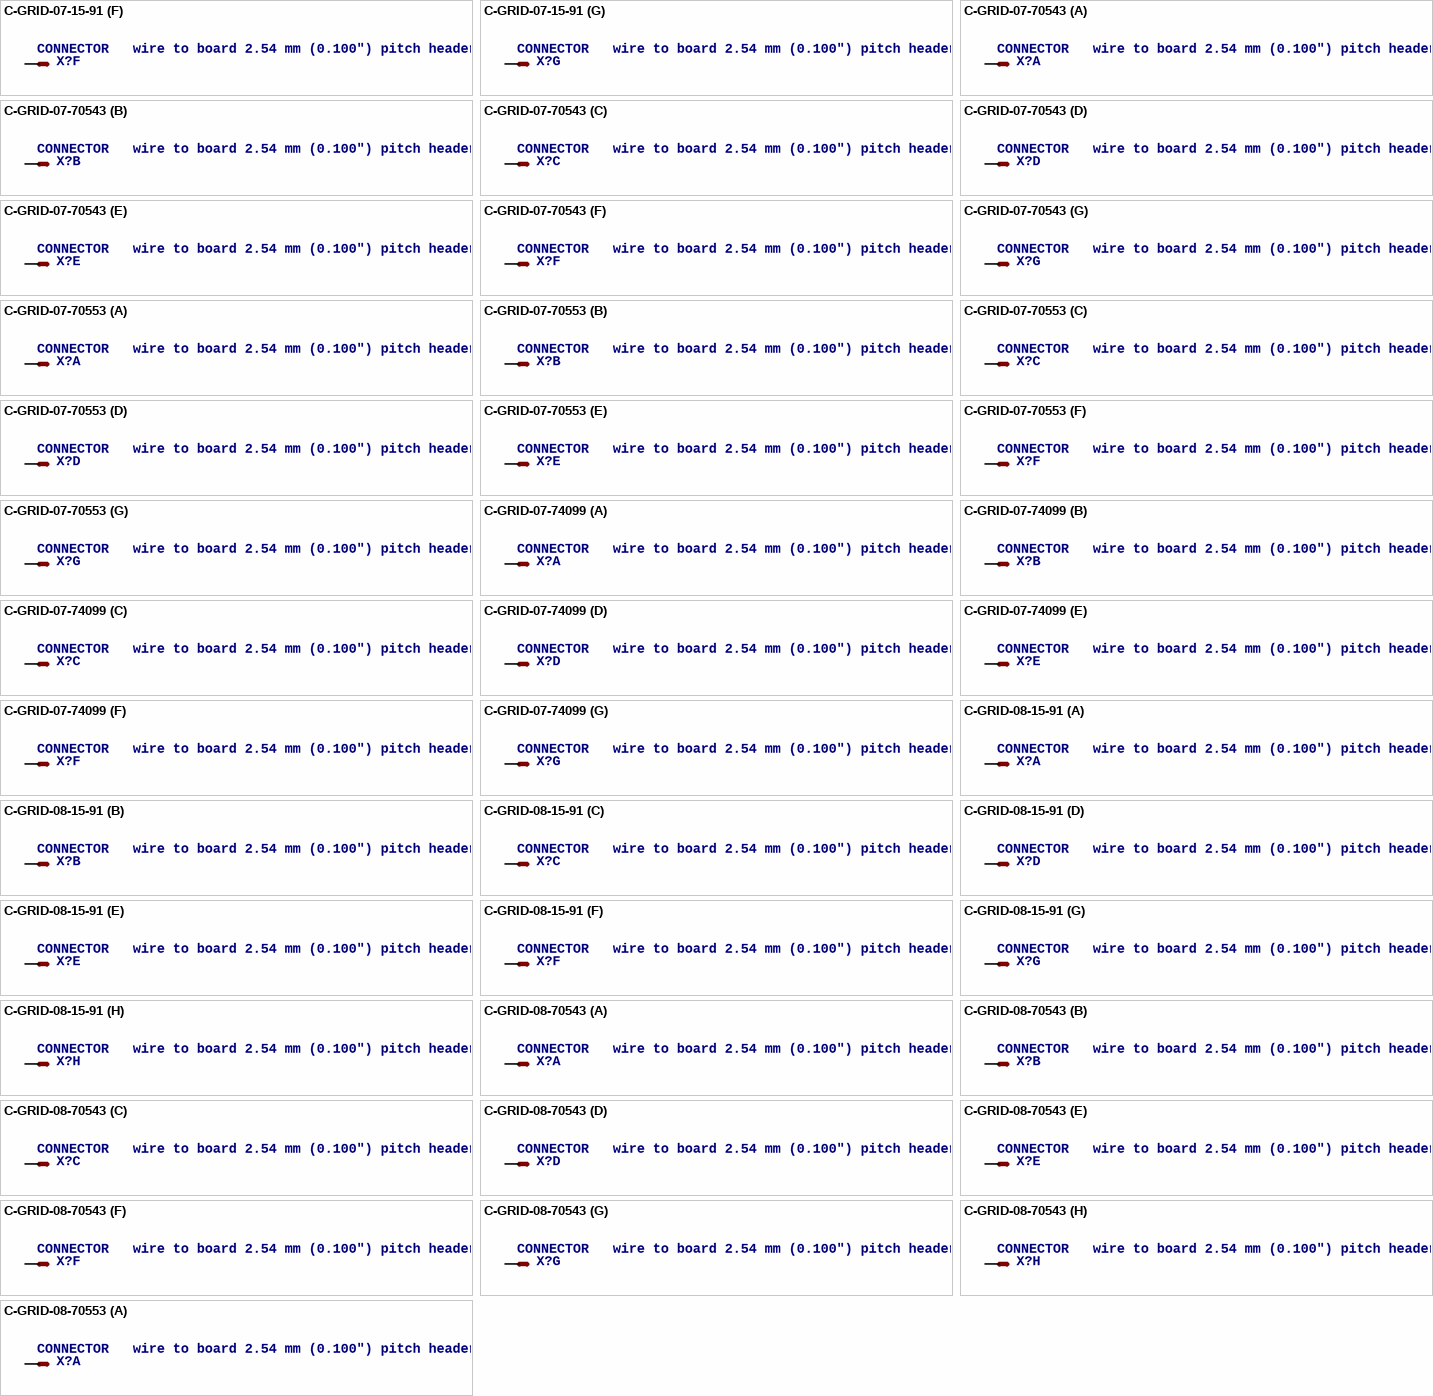
[diagram p108: symbols C-GRID-07-15-91 to C-GRID-08-70553]

## C-GRID-07-15-91
designator X?, comment CONNECTOR   wire to board 2.54 mm (0.100") pitch header
OC_FARNELL: unknown; OC_NEWARK: unknown
footprint 15-91-07
part A pins: 1 S
part B pins: 2 S
part C pins: 3 S
part D pins: 4 S
part E pins: 5 S
part F pins: 6 S
part G pins: 7 S

## C-GRID-07-70543
designator X?, comment CONNECTOR   wire to board 2.54 mm (0.100") pitch header
OC_FARNELL: unknown; OC_NEWARK: unknown
footprint 70543-07
part A pins: 1 S
part B pins: 2 S
part C pins: 3 S
part D pins: 4 S
part E pins: 5 S
part F pins: 6 S
part G pins: 7 S

## C-GRID-07-70553
designator X?, comment CONNECTOR   wire to board 2.54 mm (0.100") pitch header
OC_FARNELL: unknown; OC_NEWARK: unknown
footprint 70553-07
part A pins: 1 S
part B pins: 2 S
part C pins: 3 S
part D pins: 4 S
part E pins: 5 S
part F pins: 6 S
part G pins: 7 S

## C-GRID-07-74099
designator X?, comment CONNECTOR   wire to board 2.54 mm (0.100") pitch header
OC_FARNELL: unknown; OC_NEWARK: unknown
footprint 74099-07
part A pins: 1 S
part B pins: 2 S
part C pins: 3 S
part D pins: 4 S
part E pins: 5 S
part F pins: 6 S
part G pins: 7 S

## C-GRID-08-15-91
designator X?, comment CONNECTOR   wire to board 2.54 mm (0.100") pitch header
OC_FARNELL: unknown; OC_NEWARK: unknown
footprint 15-91-08
part A pins: 1 S
part B pins: 2 S
part C pins: 3 S
part D pins: 4 S
part E pins: 5 S
part F pins: 6 S
part G pins: 7 S
part H pins: 8 S

## C-GRID-08-70543
designator X?, comment CONNECTOR   wire to board 2.54 mm (0.100") pitch header
OC_FARNELL: unknown; OC_NEWARK: unknown
footprint 70543-08
part A pins: 1 S
part B pins: 2 S
part C pins: 3 S
part D pins: 4 S
part E pins: 5 S
part F pins: 6 S
part G pins: 7 S
part H pins: 8 S

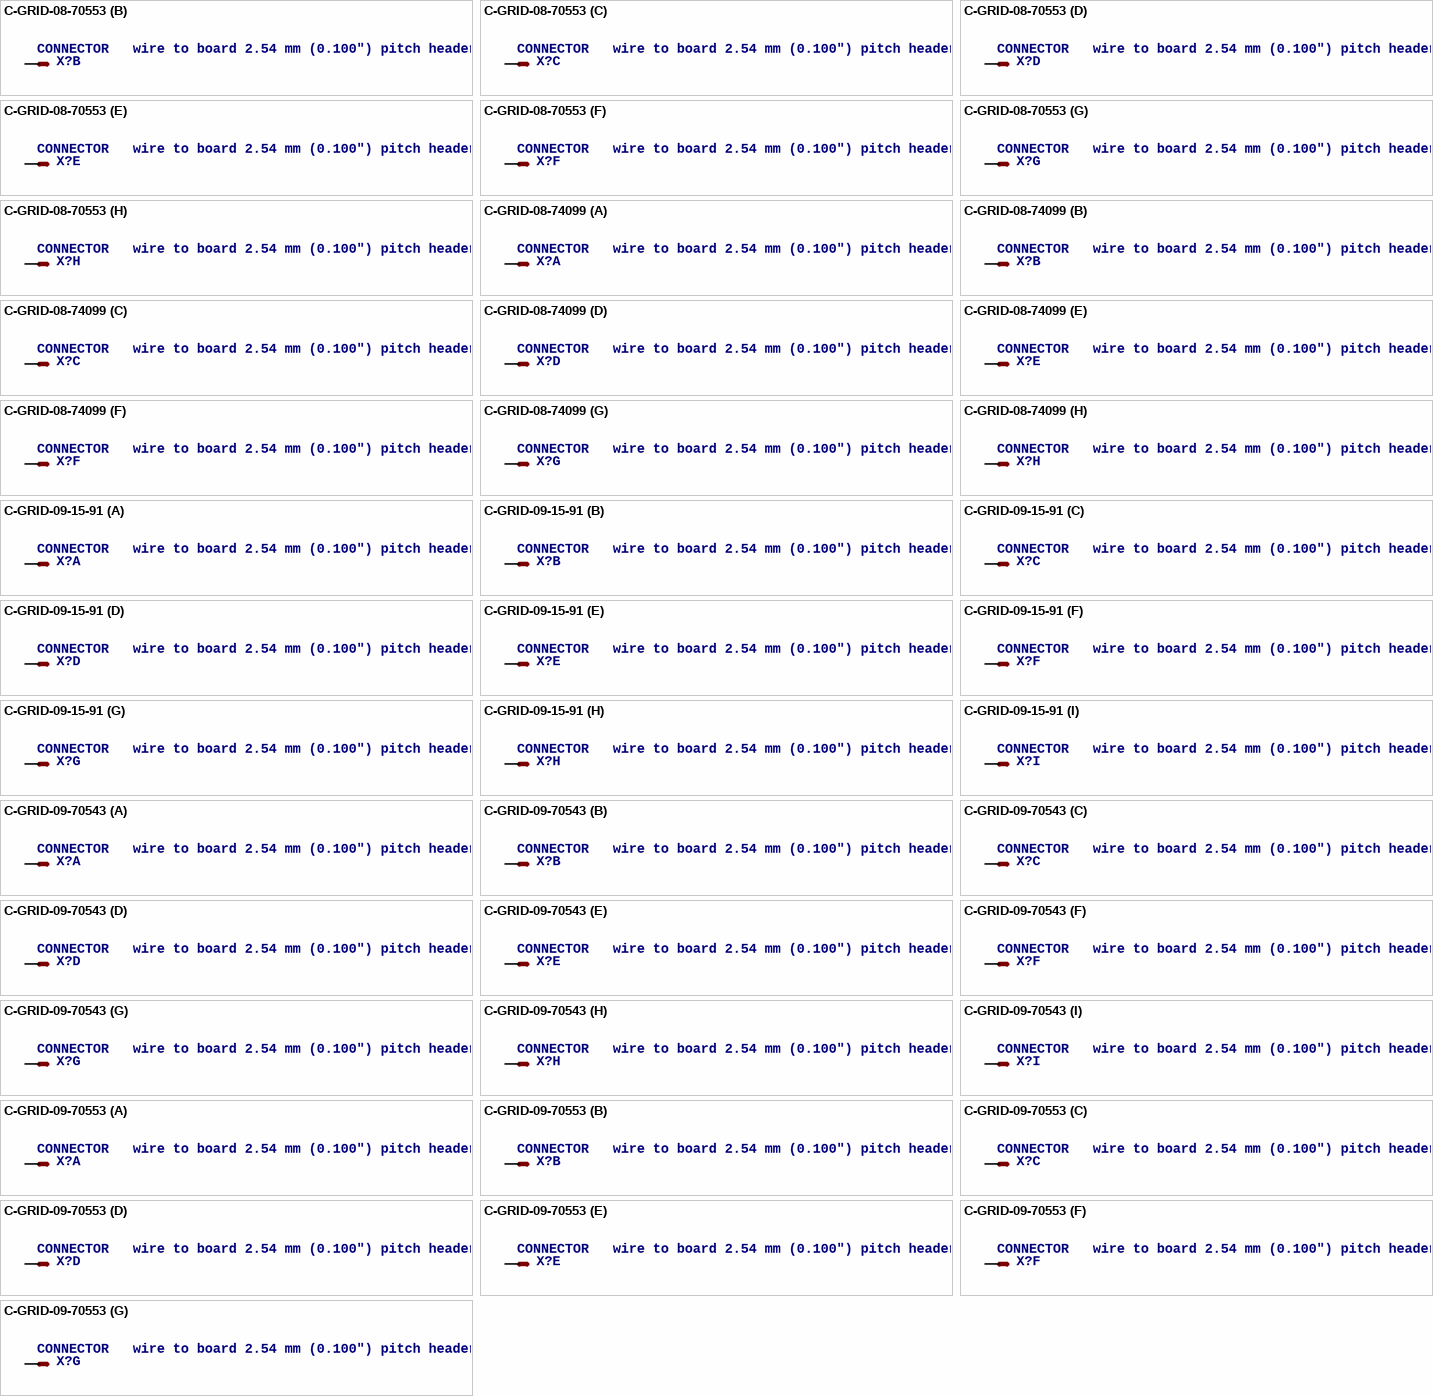
[diagram p109: symbols C-GRID-08-70553 to C-GRID-09-70553]

## C-GRID-08-70553
designator X?, comment CONNECTOR   wire to board 2.54 mm (0.100") pitch header
OC_FARNELL: unknown; OC_NEWARK: unknown
footprint 70553-08
part A pins: 1 S
part B pins: 2 S
part C pins: 3 S
part D pins: 4 S
part E pins: 5 S
part F pins: 6 S
part G pins: 7 S
part H pins: 8 S

## C-GRID-08-74099
designator X?, comment CONNECTOR   wire to board 2.54 mm (0.100") pitch header
OC_FARNELL: unknown; OC_NEWARK: unknown
footprint 74099-08
part A pins: 1 S
part B pins: 2 S
part C pins: 3 S
part D pins: 4 S
part E pins: 5 S
part F pins: 6 S
part G pins: 7 S
part H pins: 8 S

## C-GRID-09-15-91
designator X?, comment CONNECTOR   wire to board 2.54 mm (0.100") pitch header
OC_FARNELL: unknown; OC_NEWARK: unknown
footprint 15-91-09
part A pins: 1 S
part B pins: 2 S
part C pins: 3 S
part D pins: 4 S
part E pins: 5 S
part F pins: 6 S
part G pins: 7 S
part H pins: 8 S
part I pins: 9 S

## C-GRID-09-70543
designator X?, comment CONNECTOR   wire to board 2.54 mm (0.100") pitch header
OC_FARNELL: unknown; OC_NEWARK: unknown
footprint 70543-09
part A pins: 1 S
part B pins: 2 S
part C pins: 3 S
part D pins: 4 S
part E pins: 5 S
part F pins: 6 S
part G pins: 7 S
part H pins: 8 S
part I pins: 9 S

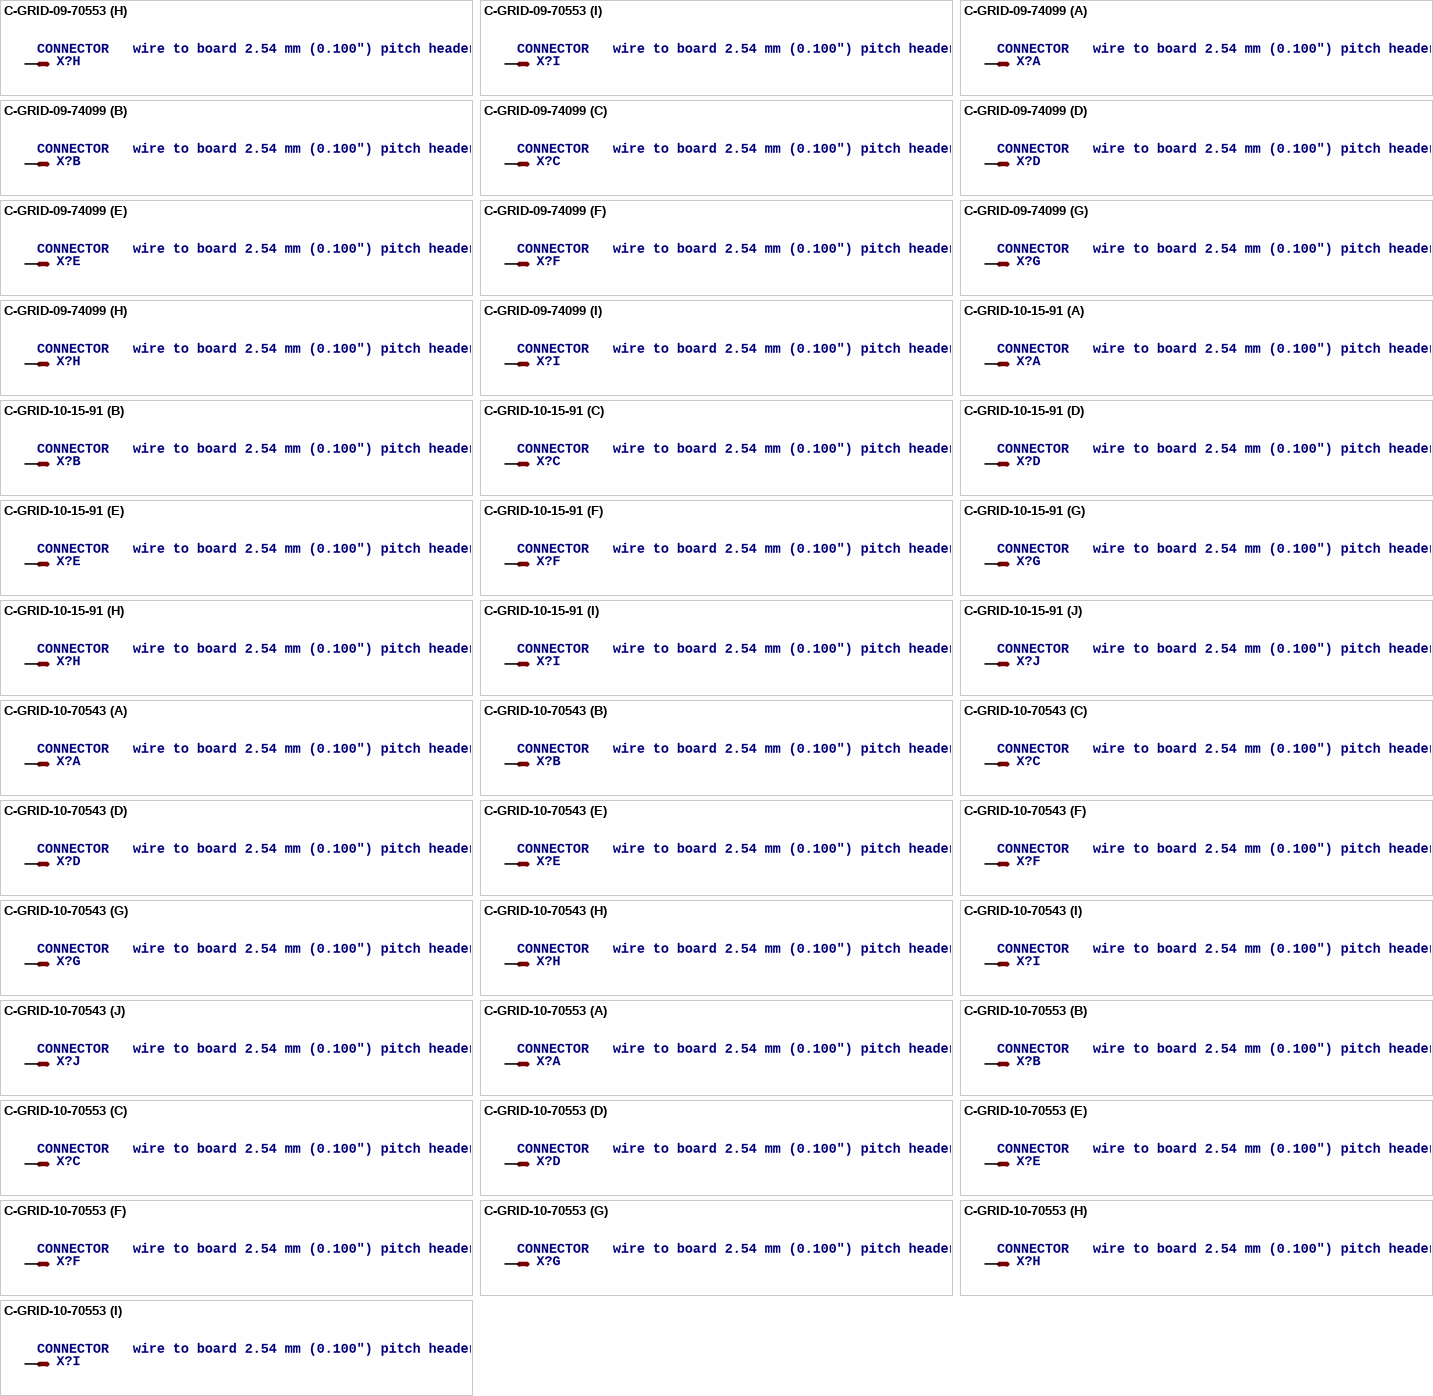
[diagram p110: symbols C-GRID-09-70553 to C-GRID-10-70553]

## C-GRID-09-70553
designator X?, comment CONNECTOR   wire to board 2.54 mm (0.100") pitch header
OC_FARNELL: unknown; OC_NEWARK: unknown
footprint 70553-09
part A pins: 1 S
part B pins: 2 S
part C pins: 3 S
part D pins: 4 S
part E pins: 5 S
part F pins: 6 S
part G pins: 7 S
part H pins: 8 S
part I pins: 9 S

## C-GRID-09-74099
designator X?, comment CONNECTOR   wire to board 2.54 mm (0.100") pitch header
OC_FARNELL: unknown; OC_NEWARK: unknown
footprint 74099-09
part A pins: 1 S
part B pins: 2 S
part C pins: 3 S
part D pins: 4 S
part E pins: 5 S
part F pins: 6 S
part G pins: 7 S
part H pins: 8 S
part I pins: 9 S

## C-GRID-10-15-91
designator X?, comment CONNECTOR   wire to board 2.54 mm (0.100") pitch header
OC_FARNELL: unknown; OC_NEWARK: unknown
footprint 15-91-10
part A pins: 1 S
part B pins: 2 S
part C pins: 3 S
part D pins: 4 S
part E pins: 5 S
part F pins: 6 S
part G pins: 7 S
part H pins: 8 S
part I pins: 9 S
part J pins: 10 S

## C-GRID-10-70543
designator X?, comment CONNECTOR   wire to board 2.54 mm (0.100") pitch header
OC_FARNELL: unknown; OC_NEWARK: unknown
footprint 70543-10
part A pins: 1 S
part B pins: 2 S
part C pins: 3 S
part D pins: 4 S
part E pins: 5 S
part F pins: 6 S
part G pins: 7 S
part H pins: 8 S
part I pins: 9 S
part J pins: 10 S

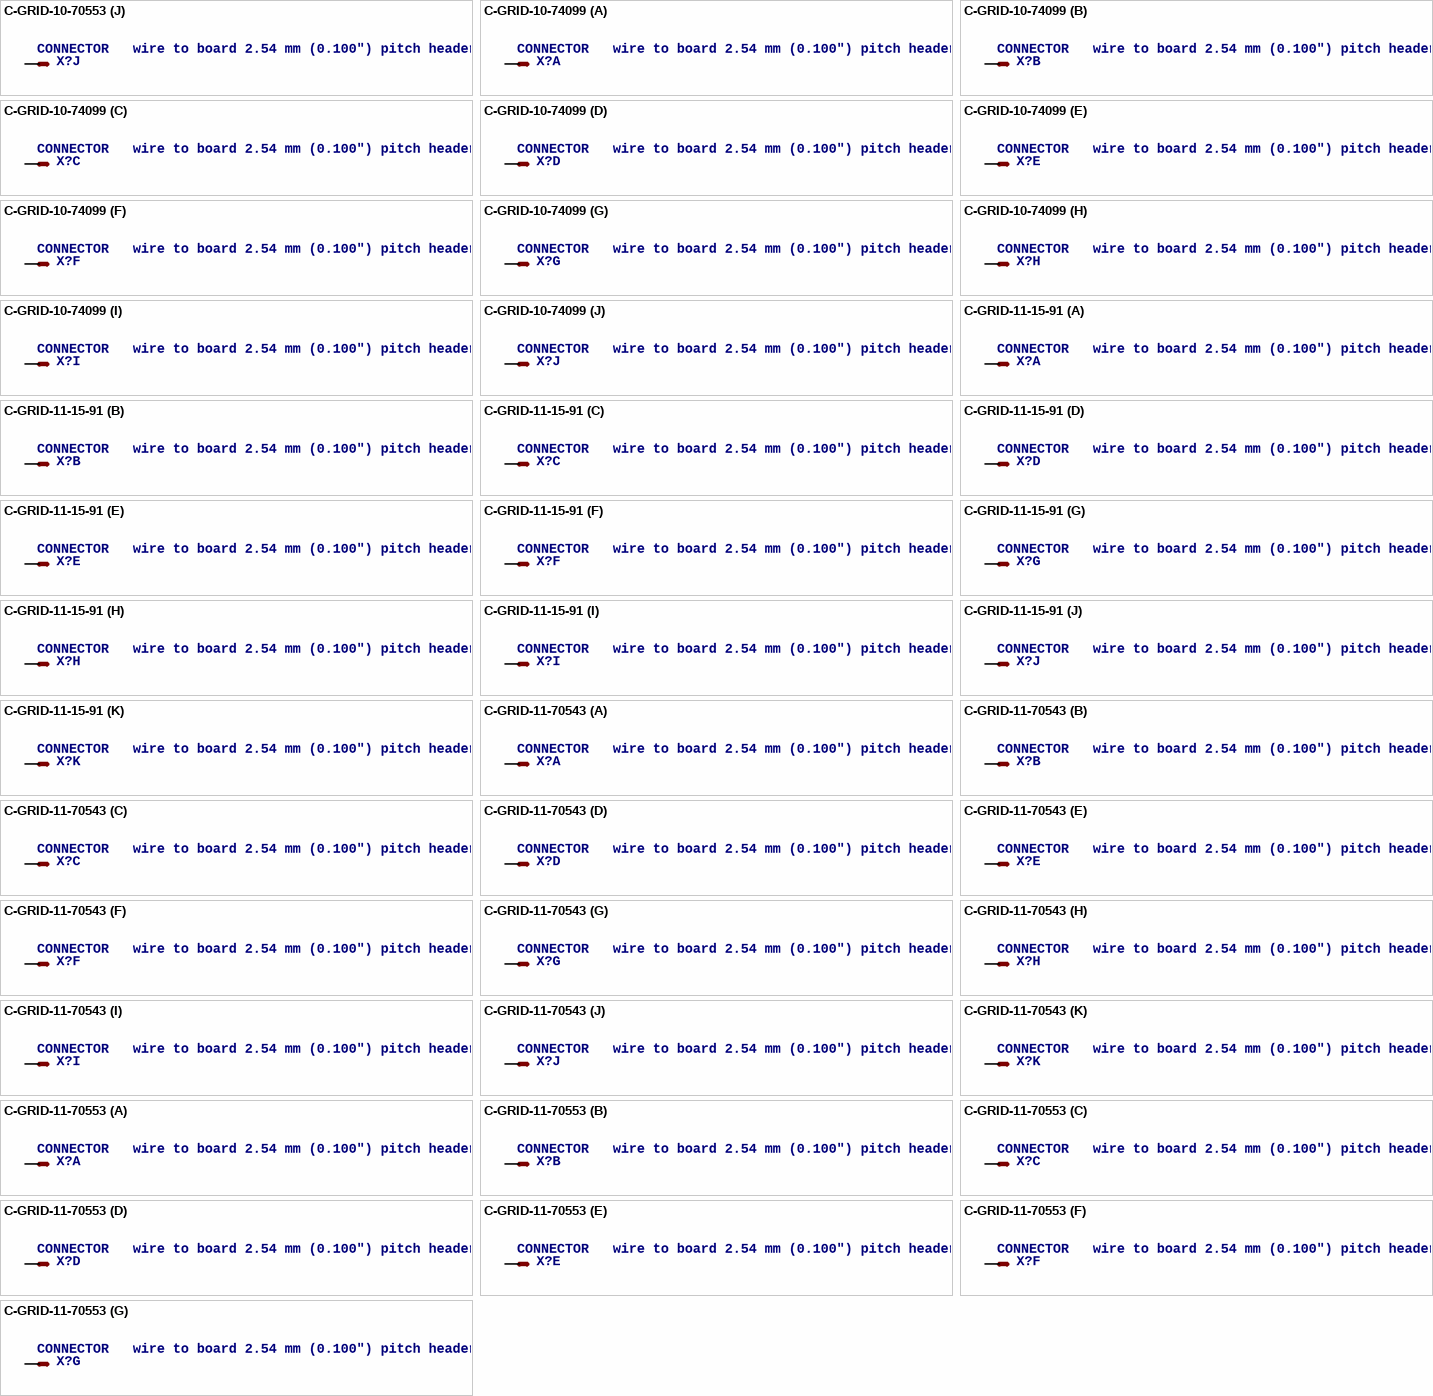
[diagram p111: symbols C-GRID-10-70553 to C-GRID-11-70553]

## C-GRID-10-70553
designator X?, comment CONNECTOR   wire to board 2.54 mm (0.100") pitch header
OC_FARNELL: unknown; OC_NEWARK: unknown
footprint 70553-10
part A pins: 1 S
part B pins: 2 S
part C pins: 3 S
part D pins: 4 S
part E pins: 5 S
part F pins: 6 S
part G pins: 7 S
part H pins: 8 S
part I pins: 9 S
part J pins: 10 S

## C-GRID-10-74099
designator X?, comment CONNECTOR   wire to board 2.54 mm (0.100") pitch header
OC_FARNELL: unknown; OC_NEWARK: unknown
footprint 74099-10
part A pins: 1 S
part B pins: 2 S
part C pins: 3 S
part D pins: 4 S
part E pins: 5 S
part F pins: 6 S
part G pins: 7 S
part H pins: 8 S
part I pins: 9 S
part J pins: 10 S

## C-GRID-11-15-91
designator X?, comment CONNECTOR   wire to board 2.54 mm (0.100") pitch header
OC_FARNELL: unknown; OC_NEWARK: unknown
footprint 15-91-11
part A pins: 1 S
part B pins: 2 S
part C pins: 3 S
part D pins: 4 S
part E pins: 5 S
part F pins: 6 S
part G pins: 7 S
part H pins: 8 S
part I pins: 9 S
part J pins: 10 S
part K pins: 11 S

## C-GRID-11-70543
designator X?, comment CONNECTOR   wire to board 2.54 mm (0.100") pitch header
OC_FARNELL: unknown; OC_NEWARK: unknown
footprint 70543-11
part A pins: 1 S
part B pins: 2 S
part C pins: 3 S
part D pins: 4 S
part E pins: 5 S
part F pins: 6 S
part G pins: 7 S
part H pins: 8 S
part I pins: 9 S
part J pins: 10 S
part K pins: 11 S

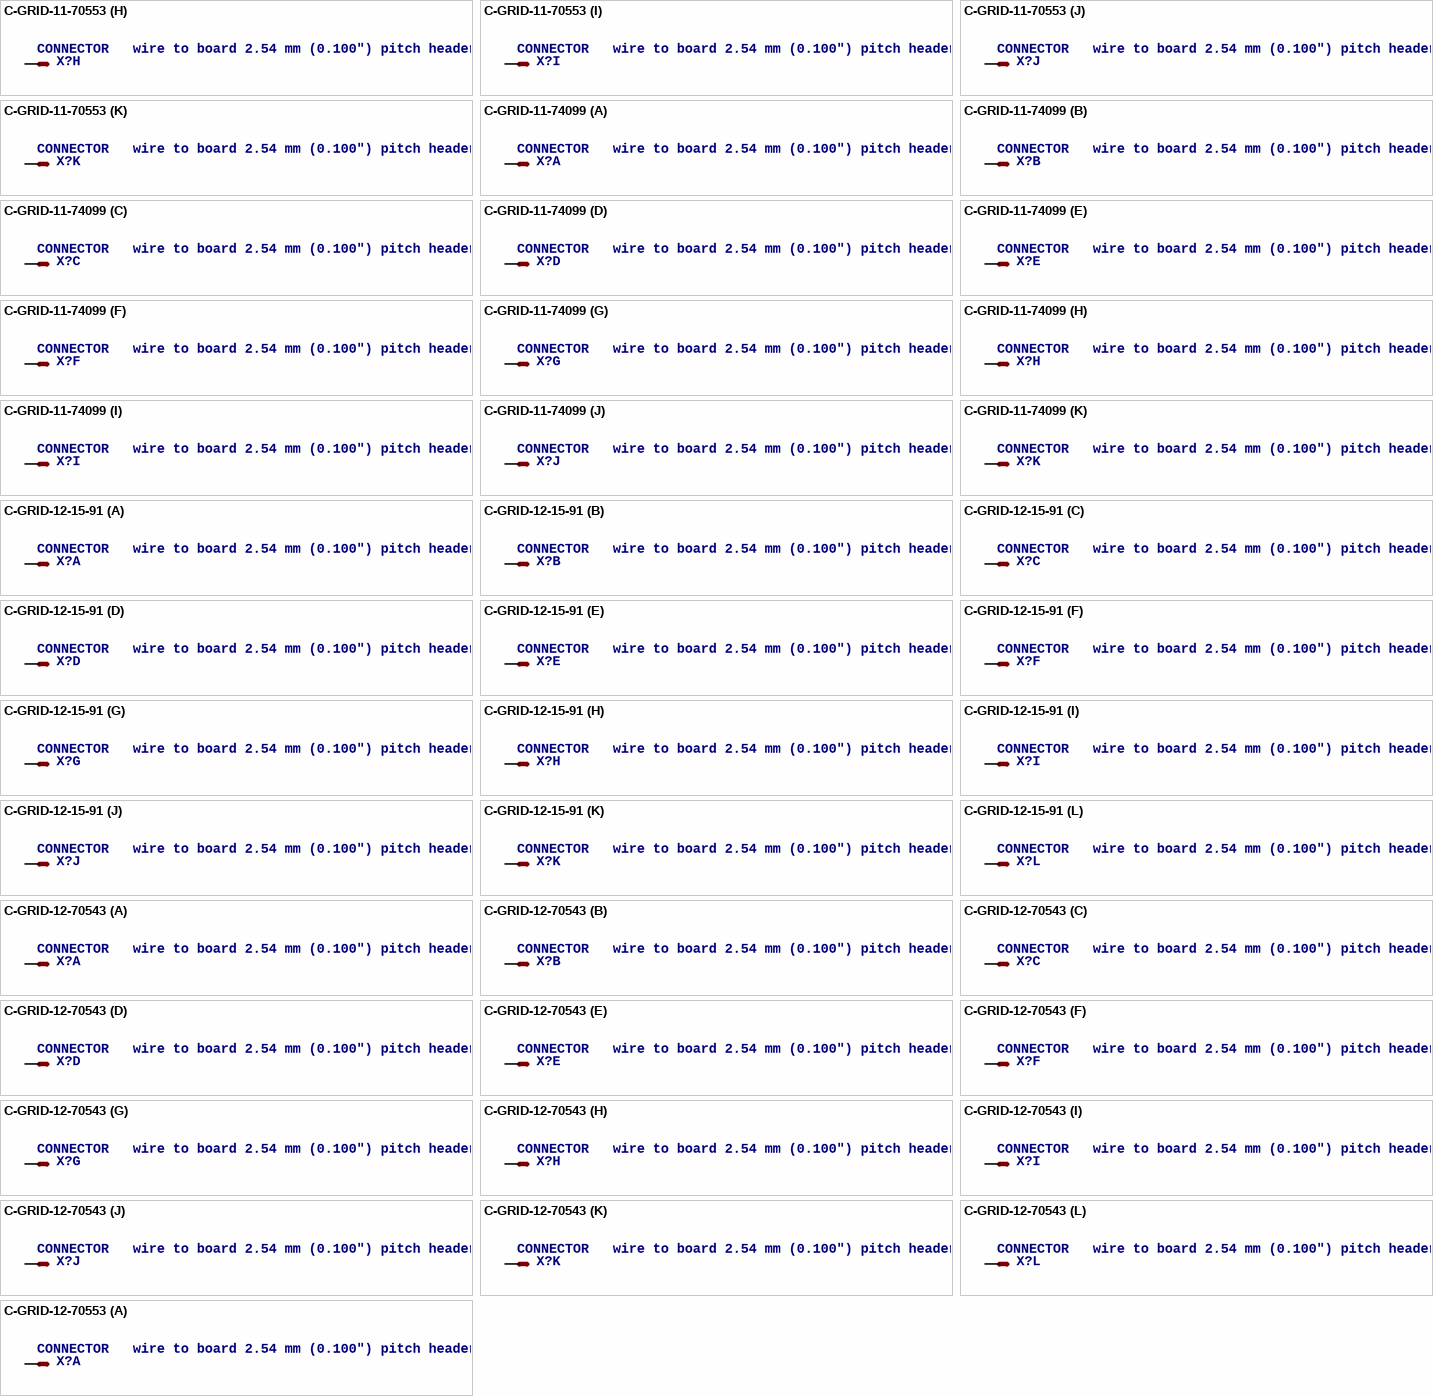
[diagram p112: symbols C-GRID-11-70553 to C-GRID-12-70553]

## C-GRID-11-70553
designator X?, comment CONNECTOR   wire to board 2.54 mm (0.100") pitch header
OC_FARNELL: unknown; OC_NEWARK: unknown
footprint 70553-11
part A pins: 1 S
part B pins: 2 S
part C pins: 3 S
part D pins: 4 S
part E pins: 5 S
part F pins: 6 S
part G pins: 7 S
part H pins: 8 S
part I pins: 9 S
part J pins: 10 S
part K pins: 11 S

## C-GRID-11-74099
designator X?, comment CONNECTOR   wire to board 2.54 mm (0.100") pitch header
OC_FARNELL: unknown; OC_NEWARK: unknown
footprint 74099-11
part A pins: 1 S
part B pins: 2 S
part C pins: 3 S
part D pins: 4 S
part E pins: 5 S
part F pins: 6 S
part G pins: 7 S
part H pins: 8 S
part I pins: 9 S
part J pins: 10 S
part K pins: 11 S

## C-GRID-12-15-91
designator X?, comment CONNECTOR   wire to board 2.54 mm (0.100") pitch header
OC_FARNELL: unknown; OC_NEWARK: unknown
footprint 15-91-12
part A pins: 1 S
part B pins: 2 S
part C pins: 3 S
part D pins: 4 S
part E pins: 5 S
part F pins: 6 S
part G pins: 7 S
part H pins: 8 S
part I pins: 9 S
part J pins: 10 S
part K pins: 11 S
part L pins: 12 S

## C-GRID-12-70543
designator X?, comment CONNECTOR   wire to board 2.54 mm (0.100") pitch header
OC_FARNELL: unknown; OC_NEWARK: unknown
footprint 70543-12
part A pins: 1 S
part B pins: 2 S
part C pins: 3 S
part D pins: 4 S
part E pins: 5 S
part F pins: 6 S
part G pins: 7 S
part H pins: 8 S
part I pins: 9 S
part J pins: 10 S
part K pins: 11 S
part L pins: 12 S

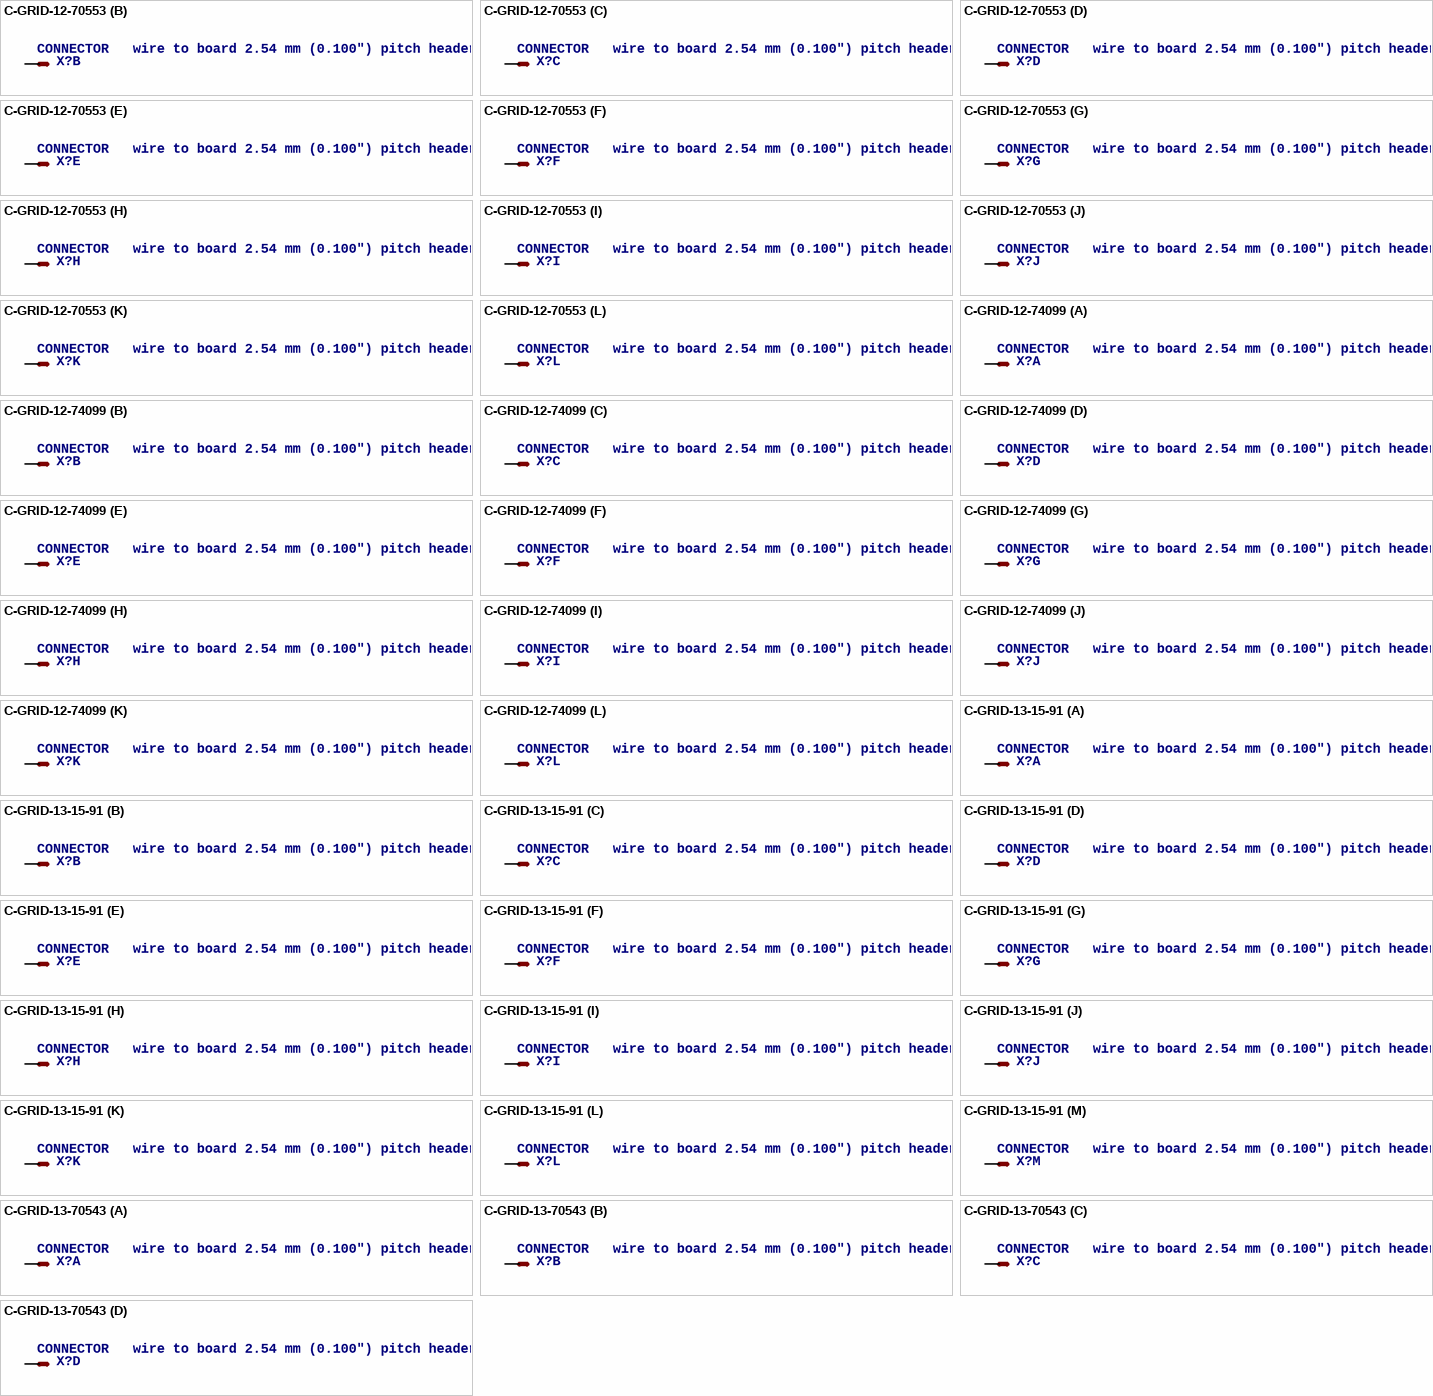
[diagram p113: symbols C-GRID-12-70553 to C-GRID-13-70543]

## C-GRID-12-70553
designator X?, comment CONNECTOR   wire to board 2.54 mm (0.100") pitch header
OC_FARNELL: unknown; OC_NEWARK: unknown
footprint 70553-12
part A pins: 1 S
part B pins: 2 S
part C pins: 3 S
part D pins: 4 S
part E pins: 5 S
part F pins: 6 S
part G pins: 7 S
part H pins: 8 S
part I pins: 9 S
part J pins: 10 S
part K pins: 11 S
part L pins: 12 S

## C-GRID-12-74099
designator X?, comment CONNECTOR   wire to board 2.54 mm (0.100") pitch header
OC_FARNELL: unknown; OC_NEWARK: unknown
footprint 74099-12
part A pins: 1 S
part B pins: 2 S
part C pins: 3 S
part D pins: 4 S
part E pins: 5 S
part F pins: 6 S
part G pins: 7 S
part H pins: 8 S
part I pins: 9 S
part J pins: 10 S
part K pins: 11 S
part L pins: 12 S

## C-GRID-13-15-91
designator X?, comment CONNECTOR   wire to board 2.54 mm (0.100") pitch header
OC_FARNELL: unknown; OC_NEWARK: unknown
footprint 15-91-13
part A pins: 1 S
part B pins: 2 S
part C pins: 3 S
part D pins: 4 S
part E pins: 5 S
part F pins: 6 S
part G pins: 7 S
part H pins: 8 S
part I pins: 9 S
part J pins: 10 S
part K pins: 11 S
part L pins: 12 S
part M pins: 13 S

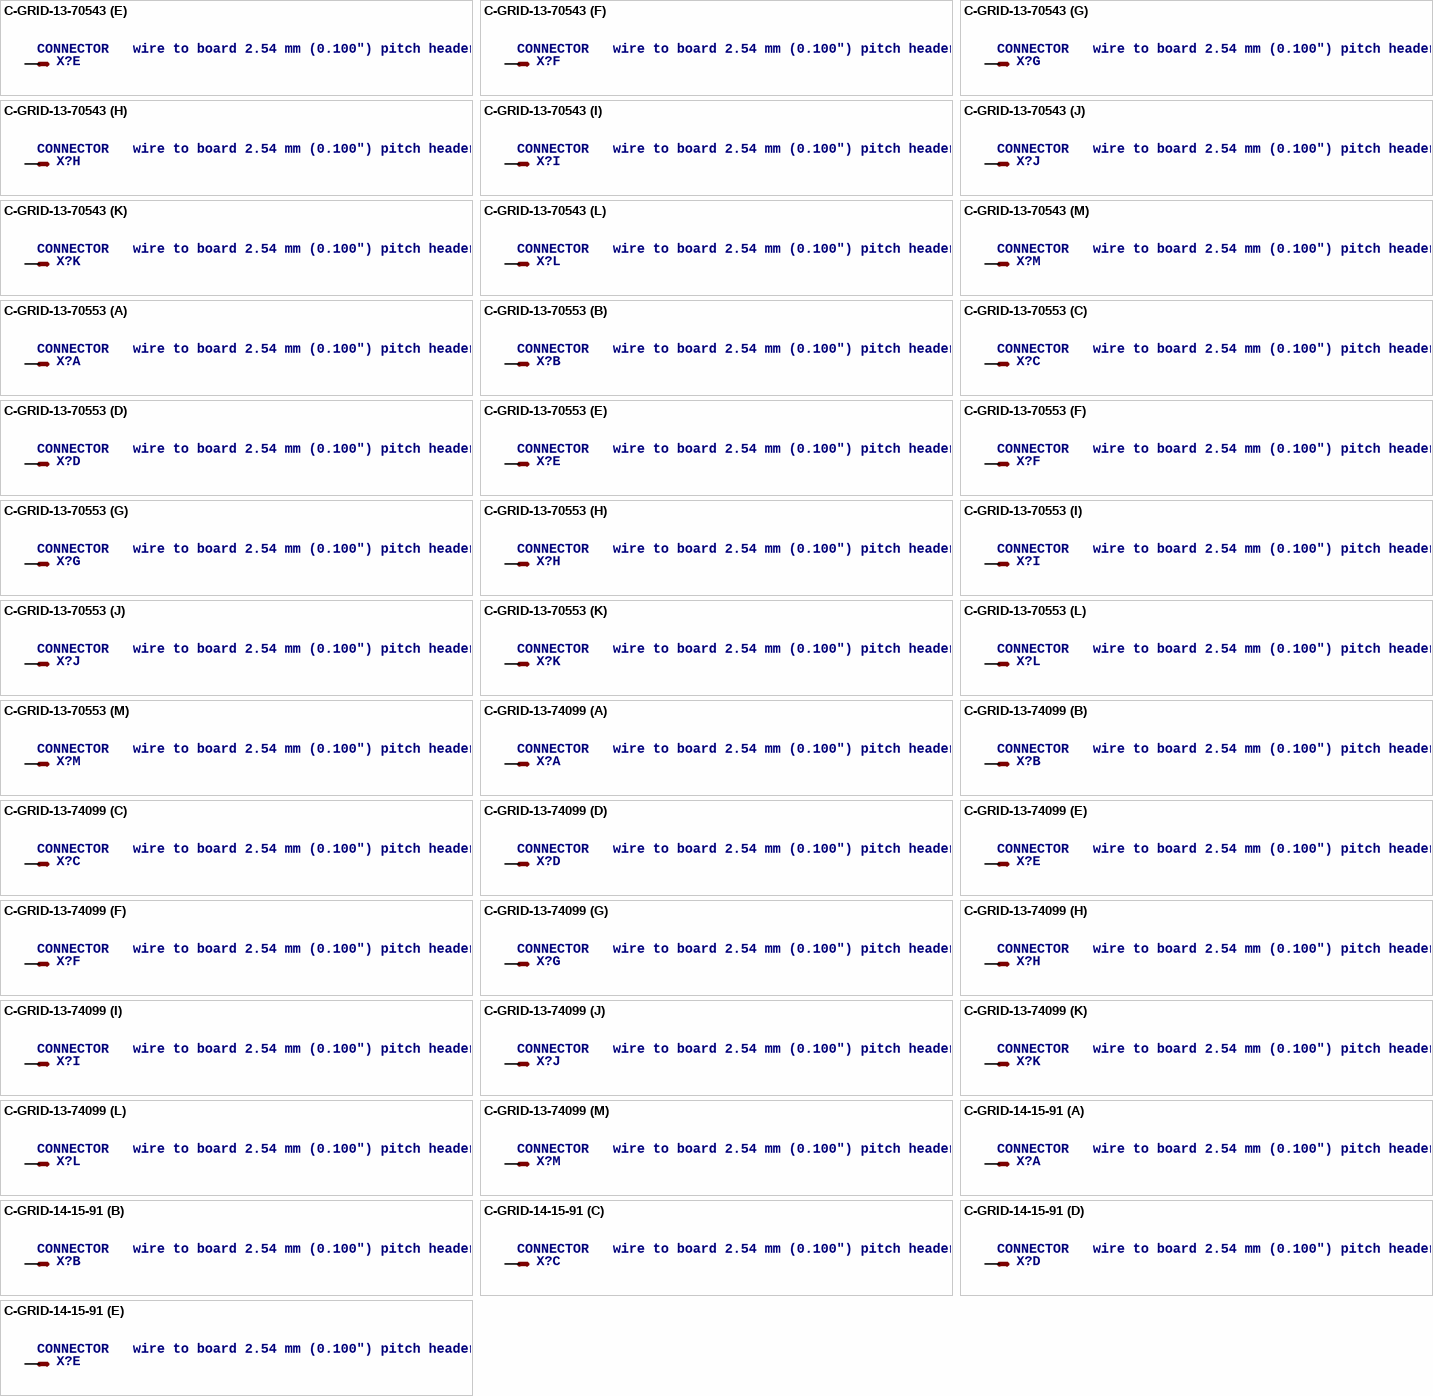
[diagram p114: symbols C-GRID-13-70543 to C-GRID-14-15-91]

## C-GRID-13-70543
designator X?, comment CONNECTOR   wire to board 2.54 mm (0.100") pitch header
OC_FARNELL: unknown; OC_NEWARK: unknown
footprint 70543-13
part A pins: 1 S
part B pins: 2 S
part C pins: 3 S
part D pins: 4 S
part E pins: 5 S
part F pins: 6 S
part G pins: 7 S
part H pins: 8 S
part I pins: 9 S
part J pins: 10 S
part K pins: 11 S
part L pins: 12 S
part M pins: 13 S

## C-GRID-13-70553
designator X?, comment CONNECTOR   wire to board 2.54 mm (0.100") pitch header
OC_FARNELL: unknown; OC_NEWARK: unknown
footprint 70553-13
part A pins: 1 S
part B pins: 2 S
part C pins: 3 S
part D pins: 4 S
part E pins: 5 S
part F pins: 6 S
part G pins: 7 S
part H pins: 8 S
part I pins: 9 S
part J pins: 10 S
part K pins: 11 S
part L pins: 12 S
part M pins: 13 S

## C-GRID-13-74099
designator X?, comment CONNECTOR   wire to board 2.54 mm (0.100") pitch header
OC_FARNELL: unknown; OC_NEWARK: unknown
footprint 74099-13
part A pins: 1 S
part B pins: 2 S
part C pins: 3 S
part D pins: 4 S
part E pins: 5 S
part F pins: 6 S
part G pins: 7 S
part H pins: 8 S
part I pins: 9 S
part J pins: 10 S
part K pins: 11 S
part L pins: 12 S
part M pins: 13 S